# Altium schematic symbol library Schematic-Lib-ABahlmann-IC.SchLib: 124 symbols (part 2 of 4)
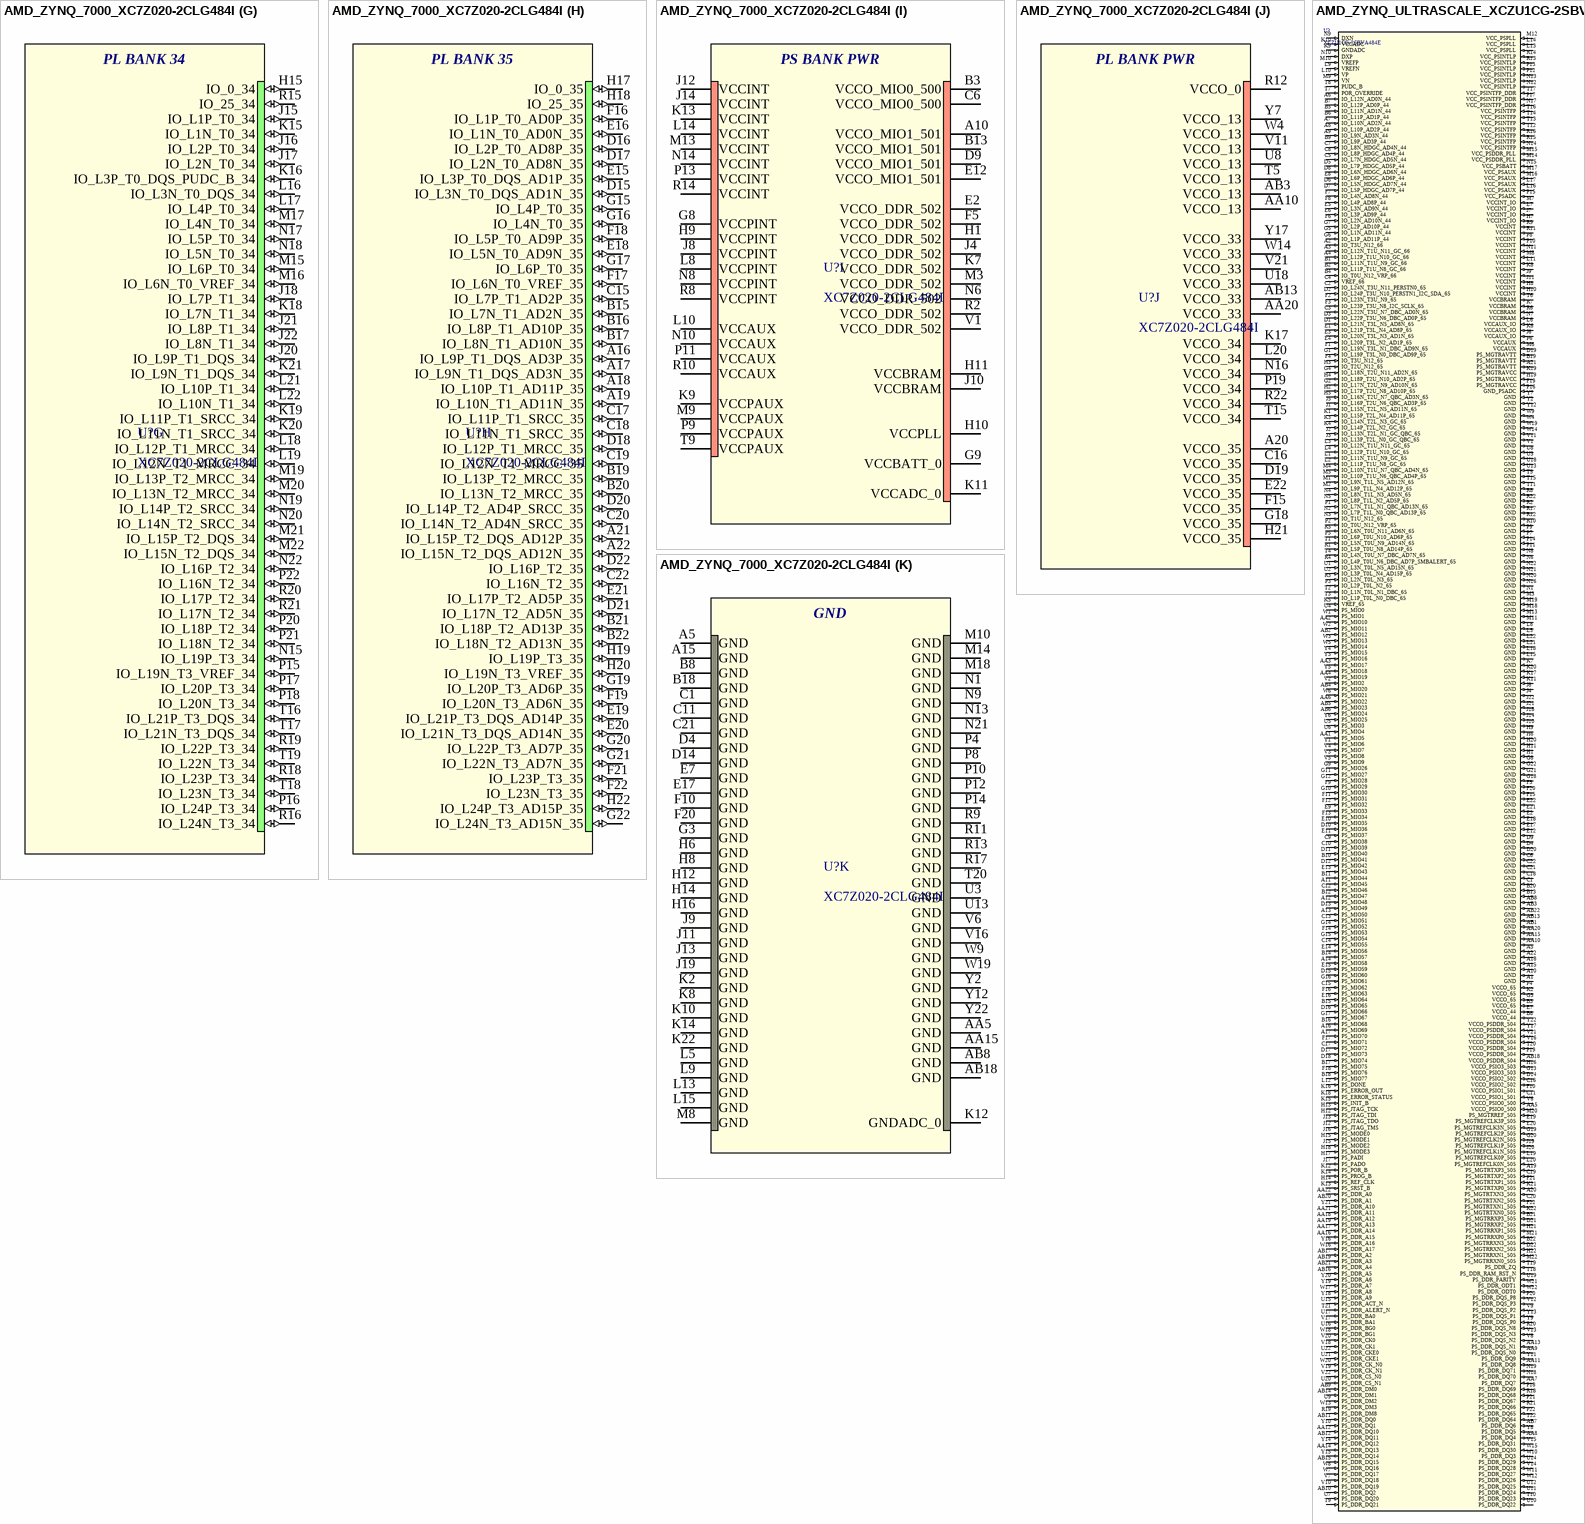
[diagram p22: symbols AMD_ZYNQ_7000_XC7Z020-2CLG484I to AMD_ZYNQ_ULTRASCALE_XCZU1CG-2SBVA484E]

## AMD_ZYNQ_7000_XC7Z020-2CLG484I
designator U?, comment XC7Z020-2CLG484I
Dual ARM® Cortex®-A9 MPCore™ with CoreSight™ System On Chip (SOC) IC Zynq®-7000 Artix™-7 FPGA, 85K Logic Cells 766MHz 484-CSPBGA (19x19); ComponentLink1Description: Digikey; ComponentLink1URL: https://www.digikey.ca/en/products/detail/amd/XC7Z020-2CLG484I/3925763; ComponentLink2Description: DS187; ComponentLink2URL: https://docs.amd.com/v/u/en-US/ds187-XC7Z010-XC7Z020-Data-Sheet; ComponentLink3Description: DS190; ComponentLink3URL: https://docs.amd.com/v/u/en-US/ds190-Zynq-7000-Overview
footprint AMD_ZYNQ_7000_XC7Z020-2CLG484I (Dual ARM® Cortex®-A9 MPCore™ with CoreSight™ System On Chip (SOC) IC Zynq®-7000 Artix™-7 FPGA, 85K Logic Cells 766MHz 484-CSPBGA (19x19))
part A pins: G10 RSVDGND (power), G11 TCK_0 (in), G12 TMS_0 (in), G14 TDO_0 (out), H13 TDI_0 (in), L11 VP_0 (in), L12 VREFN_0 (in), M11 VREFP_0 (in), M12 VN_0 (in), N11 DXP_0 (in), N12 DXN_0 (in), T7 RSVDVCC1 (power), T8 RSVDVCC2 (power), T10 RSVDVCC3 (power), T11 PROGRAM_B_0 (in), T12 DONE_0 (io), T13 CFGBVS_0 (in), T14 INIT_B_0 (io)
part B pins: A1 PS_MIO1_500 (io), A2 PS_MIO2_500 (io), A3 PS_MIO5_500 (io), A4 PS_MIO6_500 (io), A6 PS_MIO13_500 (io), B4 PS_MIO11_500 (io), B5 PS_POR_B_500 (in), B6 PS_MIO14_500 (io), C4 PS_MIO9_500 (io), C5 PS_MIO12_500 (io), D5 PS_MIO7_500 (io), E4 PS_MIO4_500 (io), E5 PS_MIO8_500 (io), E6 PS_MIO15_500 (io), F6 PS_MIO3_500 (io), F7 PS_CLK_500 (in), G6 PS_MIO0_500 (io), G7 PS_MIO10_500 (io)
part C pins: A7 PS_MIO18_501 (io), A8 PS_MIO20_501 (io), A9 PS_MIO36_501 (io), A11 PS_MIO30_501 (io), A12 PS_MIO28_501 (io), A13 PS_MIO26_501 (io), A14 PS_MIO22_501 (io), B7 PS_MIO24_501 (io), B9 PS_MIO45_501 (io), B10 PS_MIO47_501 (io), B11 PS_MIO43_501 (io), B12 PS_MIO34_501 (io), B14 PS_MIO37_501 (io), C7 PS_MIO32_501 (io), C8 PS_MIO41_501 (io), C9 PS_SRST_B_501 (in), C10 PS_MIO51_501 (io), C12 PS_MIO53_501 (io), C13 PS_MIO39_501 (io), C14 PS_MIO49_501 (io), D6 PS_MIO16_501 (io), D7 PS_MIO27_501 (io), D8 PS_MIO42_501 (io), D10 PS_MIO52_501 (io), D11 PS_MIO48_501 (io), D12 PS_MIO46_501 (io), D13 PS_MIO50_501 (io), E8 PS_MIO29_501 (io), E9 PS_MIO17_501 (io), E10 PS_MIO19_501 (io), E11 PS_MIO23_501 (io), E13 PS_MIO44_501 (io), E14 PS_MIO40_501 (io), F8 PS_MIO_VREF_501 (in), F9 PS_MIO31_501 (io), F11 PS_MIO21_501 (io), F12 PS_MIO25_501 (io), F13 PS_MIO38_501 (io), F14 PS_MIO35_501 (io), G13 PS_MIO33_501 (io)
part D pins: AA1 PS_DDR_DQ26_502 (io), AA2 PS_DDR_DM3_502 (out), AA3 PS_DDR_DQ24_502 (io), B1 PS_DDR_DM0_502 (out), B2 PS_DDR_DQ2_502 (io), C2 PS_DDR_DQS_P0_502 (io), C3 PS_DDR_DQ1_502 (io), D1 PS_DDR_DQ0_502 (io), D2 PS_DDR_DQS_N0_502 (io), D3 PS_DDR_DQ3_502 (io), E1 PS_DDR_DQ5_502 (io), E3 PS_DDR_DQ4_502 (io), F1 PS_DDR_DQ7_502 (io), F2 PS_DDR_DQ6_502 (io), F3 PS_DDR_DRST_B_502 (out), F4 PS_DDR_A13_502 (out), G1 PS_DDR_DQ9_502 (io), G2 PS_DDR_DQ8_502 (io), G4 PS_DDR_A14_502 (out), G5 PS_DDR_A11_502 (out), H2 PS_DDR_DQS_P1_502 (io), H3 PS_DDR_DM1_502 (out), H4 PS_DDR_A12_502 (out), H5 PS_DDR_A9_502 (out), H7 PS_DDR_VREF0_502 (in), J1 PS_DDR_DQ14_502 (io), J2 PS_DDR_DQS_N1_502 (io), J3 PS_DDR_A10_502 (out), J5 PS_DDR_A8_502 (out), J6 PS_DDR_A7_502 (out), J7 PS_DDR_A6_502 (out), K1 PS_DDR_DQ13_502 (io), K3 PS_DDR_DQ15_502 (io), K4 PS_DDR_A2_502 (out), K5 PS_DDR_A5_502 (out), K6 PS_DDR_A4_502 (out), L1 PS_DDR_DQ10_502 (io), L2 PS_DDR_DQ11_502 (io), L3 PS_DDR_DQ12_502 (io), L4 PS_DDR_A3_502 (out), L6 PS_DDR_BA1_502 (out), L7 PS_DDR_BA0_502 (out), M1 PS_DDR_DQ16_502 (io), M2 PS_DDR_DQ22_502 (io), M4 PS_DDR_A0_502 (out), M5 PS_DDR_A1_502 (out), M6 PS_DDR_BA2_502 (out), M7 PS_DDR_VRN_502 (out), N2 PS_DDR_DQS_P2_502 (io), N3 PS_DDR_DQ18_502 (io), N4 PS_DDR_CKP_502 (out), N5 PS_DDR_CKN_502 (out), N7 PS_DDR_VRP_502 (out), P1 PS_DDR_DM2_502 (out), P2 PS_DDR_DQS_N2_502 (io), P3 PS_DDR_CAS_B_502 (out), P5 PS_DDR_ODT_502 (out), P6 PS_DDR_CS_B_502 (out), P7 PS_DDR_VREF1_502 (in), R1 PS_DDR_DQ23_502 (io), R3 PS_DDR_DQ20_502 (io), R4 PS_DDR_WE_B_502 (out), R5 PS_DDR_RAS_B_502 (out), T1 PS_DDR_DQ19_502 (io), T2 PS_DDR_DQ21_502 (io), T3 PS_DDR_DQ17_502 (io), U1 PS_DDR_DQ25_502 (io), U2 PS_DDR_DQ27_502 (io), V2 PS_DDR_DQS_P3_502 (io), V3 PS_DDR_CKE_502 (out), W1 PS_DDR_DQ28_502 (io), W2 PS_DDR_DQS_N3_502 (io), W3 PS_DDR_DQ30_502 (io), Y1 PS_DDR_DQ31_502 (io), Y3 PS_DDR_DQ29_502 (io)
part E pins: AA4 IO_L18N_T2_13 (io), AA6 IO_L14N_T2_SRCC_13 (io), AA7 IO_L14P_T2_SRCC_13 (io), AA8 IO_L11N_T1_SRCC_13 (io), AA9 IO_L11P_T1_SRCC_13 (io), AA11 IO_L8P_T1_13 (io), AA12 IO_L7P_T1_13 (io), AB1 IO_L15N_T2_DQS_13 (io), AB2 IO_L15P_T2_DQS_13 (io), AB4 IO_L16N_T2_13 (io), AB5 IO_L16P_T2_13 (io), AB6 IO_L17N_T2_13 (io), AB7 IO_L17P_T2_13 (io), AB9 IO_L9N_T1_DQS_13 (io), AB10 IO_L9P_T1_DQS_13 (io), AB11 IO_L8N_T1_13 (io), AB12 IO_L7N_T1_13 (io), R6 IO_L19P_T3_13 (io), R7 IO_0_13 (io), T4 IO_L20P_T3_13 (io), T6 IO_L19N_T3_VREF_13 (io), U4 IO_L20N_T3_13 (io), U5 IO_L22N_T3_13 (io), U6 IO_L22P_T3_13 (io), U7 IO_25_13 (io), U9 IO_L6N_T0_VREF_13 (io), U10 IO_L6P_T0_13 (io), U11 IO_L5N_T0_13 (io), U12 IO_L5P_T0_13 (io), V4 IO_L21N_T3_DQS_13 (io), V5 IO_L21P_T3_DQS_13 (io), V7 IO_L23P_T3_13 (io), V8 IO_L2P_T0_13 (io), V9 IO_L1N_T0_13 (io), V10 IO_L1P_T0_13 (io), V12 IO_L4P_T0_13 (io), W5 IO_L24N_T3_13 (io), W6 IO_L24P_T3_13 (io), W7 IO_L23N_T3_13 (io), W8 IO_L2N_T0_13 (io), W10 IO_L3N_T0_DQS_13 (io), W11 IO_L3P_T0_DQS_13 (io), W12 IO_L4N_T0_13 (io), Y4 IO_L18P_T2_13 (io), Y5 IO_L13N_T2_MRCC_13 (io), Y6 IO_L13P_T2_MRCC_13 (io), Y8 IO_L12N_T1_MRCC_13 (io), Y9 IO_L12P_T1_MRCC_13 (io), Y10 IO_L10N_T1_13 (io), Y11 IO_L10P_T1_13 (io)
part F pins: AA13 IO_L23N_T3_33 (io), AA14 IO_L22N_T3_33 (io), AA16 IO_L18P_T2_33 (io), AA17 IO_L17P_T2_33 (io), AA18 IO_L12N_T1_MRCC_33 (io), AA19 IO_L11N_T1_SRCC_33 (io), AA21 IO_L8P_T1_33 (io), AA22 IO_L7P_T1_33 (io), AB14 IO_L24P_T3_33 (io), AB15 IO_L24N_T3_33 (io), AB16 IO_L18N_T2_33 (io), AB17 IO_L17N_T2_33 (io), AB19 IO_L10P_T1_33 (io), AB20 IO_L10N_T1_33 (io), AB21 IO_L8N_T1_33 (io), AB22 IO_L7N_T1_33 (io), T21 IO_L1P_T0_33 (io), T22 IO_L2P_T0_33 (io), U14 IO_25_33 (io), U15 IO_L15P_T2_DQS_33 (io), U16 IO_L15N_T2_DQS_33 (io), U17 IO_L16P_T2_33 (io), U19 IO_0_33 (io), U20 IO_L5P_T0_33 (io), U21 IO_L1N_T0_33 (io), U22 IO_L2N_T0_33 (io), V13 IO_L20P_T3_33 (io), V14 IO_L19P_T3_33 (io), V15 IO_L19N_T3_VREF_33 (io), V17 IO_L16N_T2_33 (io), V18 IO_L6P_T0_33 (io), V19 IO_L6N_T0_VREF_33 (io), V20 IO_L5N_T0_33 (io), V22 IO_L3P_T0_DQS_33 (io), W13 IO_L20N_T3_33 (io), W15 IO_L21P_T3_DQS_33 (io), W16 IO_L14P_T2_SRCC_33 (io), W17 IO_L13P_T2_MRCC_33 (io), W18 IO_L13N_T2_MRCC_33 (io), W20 IO_L4P_T0_33 (io), W21 IO_L4N_T0_33 (io), W22 IO_L3N_T0_DQS_33 (io), Y13 IO_L23P_T3_33 (io), Y14 IO_L22P_T3_33 (io), Y15 IO_L21N_T3_DQS_33 (io), Y16 IO_L14N_T2_SRCC_33 (io), Y18 IO_L12P_T1_MRCC_33 (io), Y19 IO_L11P_T1_SRCC_33 (io), Y20 IO_L9P_T1_DQS_33 (io), Y21 IO_L9N_T1_DQS_33 (io)
part G pins: H15 IO_0_34 (io), J15 IO_L1P_T0_34 (io), J16 IO_L2P_T0_34 (io), J17 IO_L2N_T0_34 (io), J18 IO_L7P_T1_34 (io), J20 IO_L9P_T1_DQS_34 (io), J21 IO_L8P_T1_34 (io), J22 IO_L8N_T1_34 (io), K15 IO_L1N_T0_34 (io), K16 IO_L3P_T0_DQS_PUDC_B_34 (io), K18 IO_L7N_T1_34 (io), K19 IO_L11P_T1_SRCC_34 (io), K20 IO_L11N_T1_SRCC_34 (io), K21 IO_L9N_T1_DQS_34 (io), L16 IO_L3N_T0_DQS_34 (io), L17 IO_L4P_T0_34 (io), L18 IO_L12P_T1_MRCC_34 (io), L19 IO_L12N_T1_MRCC_34 (io), L21 IO_L10P_T1_34 (io), L22 IO_L10N_T1_34 (io), M15 IO_L6P_T0_34 (io), M16 IO_L6N_T0_VREF_34 (io), M17 IO_L4N_T0_34 (io), M19 IO_L13P_T2_MRCC_34 (io), M20 IO_L13N_T2_MRCC_34 (io), M21 IO_L15P_T2_DQS_34 (io), M22 IO_L15N_T2_DQS_34 (io), N15 IO_L19P_T3_34 (io), N17 IO_L5P_T0_34 (io), N18 IO_L5N_T0_34 (io), N19 IO_L14P_T2_SRCC_34 (io), N20 IO_L14N_T2_SRCC_34 (io), N22 IO_L16P_T2_34 (io), P15 IO_L19N_T3_VREF_34 (io), P16 IO_L24P_T3_34 (io), P17 IO_L20P_T3_34 (io), P18 IO_L20N_T3_34 (io), P20 IO_L18P_T2_34 (io), P21 IO_L18N_T2_34 (io), P22 IO_L16N_T2_34 (io), R15 IO_25_34 (io), R16 IO_L24N_T3_34 (io), R18 IO_L23P_T3_34 (io), R19 IO_L22P_T3_34 (io), R20 IO_L17P_T2_34 (io), R21 IO_L17N_T2_34 (io), T16 IO_L21P_T3_DQS_34 (io), T17 IO_L21N_T3_DQS_34 (io), T18 IO_L23N_T3_34 (io), T19 IO_L22N_T3_34 (io)
part H pins: A16 IO_L9P_T1_DQS_AD3P_35 (io), A17 IO_L9N_T1_DQS_AD3N_35 (io), A18 IO_L10P_T1_AD11P_35 (io), A19 IO_L10N_T1_AD11N_35 (io), A21 IO_L15P_T2_DQS_AD12P_35 (io), A22 IO_L15N_T2_DQS_AD12N_35 (io), B15 IO_L7N_T1_AD2N_35 (io), B16 IO_L8P_T1_AD10P_35 (io), B17 IO_L8N_T1_AD10N_35 (io), B19 IO_L13P_T2_MRCC_35 (io), B20 IO_L13N_T2_MRCC_35 (io), B21 IO_L18P_T2_AD13P_35 (io), B22 IO_L18N_T2_AD13N_35 (io), C15 IO_L7P_T1_AD2P_35 (io), C17 IO_L11P_T1_SRCC_35 (io), C18 IO_L11N_T1_SRCC_35 (io), C19 IO_L12N_T1_MRCC_35 (io), C20 IO_L14N_T2_AD4N_SRCC_35 (io), C22 IO_L16N_T2_35 (io), D15 IO_L3N_T0_DQS_AD1N_35 (io), D16 IO_L2P_T0_AD8P_35 (io), D17 IO_L2N_T0_AD8N_35 (io), D18 IO_L12P_T1_MRCC_35 (io), D20 IO_L14P_T2_AD4P_SRCC_35 (io), D21 IO_L17N_T2_AD5N_35 (io), D22 IO_L16P_T2_35 (io), E15 IO_L3P_T0_DQS_AD1P_35 (io), E16 IO_L1N_T0_AD0N_35 (io), E18 IO_L5N_T0_AD9N_35 (io), E19 IO_L21P_T3_DQS_AD14P_35 (io), E20 IO_L21N_T3_DQS_AD14N_35 (io), E21 IO_L17P_T2_AD5P_35 (io), F16 IO_L1P_T0_AD0P_35 (io), F17 IO_L6N_T0_VREF_35 (io), F18 IO_L5P_T0_AD9P_35 (io), F19 IO_L20N_T3_AD6N_35 (io), F21 IO_L23P_T3_35 (io), F22 IO_L23N_T3_35 (io), G15 IO_L4P_T0_35 (io), G16 IO_L4N_T0_35 (io), G17 IO_L6P_T0_35 (io), G19 IO_L20P_T3_AD6P_35 (io), G20 IO_L22P_T3_AD7P_35 (io), G21 IO_L22N_T3_AD7N_35 (io), G22 IO_L24N_T3_AD15N_35 (io), H17 IO_0_35 (io), H18 IO_25_35 (io), H19 IO_L19P_T3_35 (io), H20 IO_L19N_T3_VREF_35 (io), H22 IO_L24P_T3_AD15P_35 (io)
part I pins: A10 VCCO_MIO1_501 (power), B3 VCCO_MIO0_500 (power), B13 VCCO_MIO1_501 (power), C6 VCCO_MIO0_500 (power), D9 VCCO_MIO1_501 (power), E2 VCCO_DDR_502 (power), E12 VCCO_MIO1_501 (power), F5 VCCO_DDR_502 (power), G8 VCCPINT (power), G9 VCCBATT_0 (power), H1 VCCO_DDR_502 (power), H9 VCCPINT (power), H10 VCCPLL (power), H11 VCCBRAM (power), J4 VCCO_DDR_502 (power), J8 VCCPINT (power), J10 VCCBRAM (power), J12 VCCINT (power), J14 VCCINT (power), K7 VCCO_DDR_502 (power), K9 VCCPAUX (power), K11 VCCADC_0 (power), K13 VCCINT (power), L8 VCCPINT (power), L10 VCCAUX (power), L14 VCCINT (power), M3 VCCO_DDR_502 (power), M9 VCCPAUX (power), M13 VCCINT (power), N6 VCCO_DDR_502 (power), N8 VCCPINT (power), N10 VCCAUX (power), N14 VCCINT (power), P9 VCCPAUX (power), P11 VCCAUX (power), P13 VCCINT (power), R2 VCCO_DDR_502 (power), R8 VCCPINT (power), R10 VCCAUX (power), R14 VCCINT (power), T9 VCCPAUX (power), V1 VCCO_DDR_502 (power)
part J pins: A20 VCCO_35 (power), AA10 VCCO_13 (power), AA20 VCCO_33 (power), AB3 VCCO_13 (power), AB13 VCCO_33 (power), C16 VCCO_35 (power), D19 VCCO_35 (power), E22 VCCO_35 (power), F15 VCCO_35 (power), G18 VCCO_35 (power), H21 VCCO_35 (power), K17 VCCO_34 (power), L20 VCCO_34 (power), N16 VCCO_34 (power), P19 VCCO_34 (power), R12 VCCO_0 (power), R22 VCCO_34 (power), T5 VCCO_13 (power), T15 VCCO_34 (power), U8 VCCO_13 (power), U18 VCCO_33 (power), V11 VCCO_13 (power), V21 VCCO_33 (power), W4 VCCO_13 (power), W14 VCCO_33 (power), Y7 VCCO_13 (power), Y17 VCCO_33 (power)
part K pins: A5 GND (power), A15 GND (power), AA5 GND (power), AA15 GND (power), AB8 GND (power), AB18 GND (power), B8 GND (power), B18 GND (power), C1 GND (power), C11 GND (power), C21 GND (power), D4 GND (power), D14 GND (power), E7 GND (power), E17 GND (power), F10 GND (power), F20 GND (power), G3 GND (power), H6 GND (power), H8 GND (power), H12 GND (power), H14 GND (power), H16 GND (power), J9 GND (power), J11 GND (power), J13 GND (power), J19 GND (power), K2 GND (power), K8 GND (power), K10 GND (power), K12 GNDADC_0 (power), K14 GND (power), K22 GND (power), L5 GND (power), L9 GND (power), L13 GND (power), L15 GND (power), M8 GND (power), M10 GND (power), M14 GND (power), M18 GND (power), N1 GND (power), N9 GND (power), N13 GND (power), N21 GND (power), P4 GND (power), P8 GND (power), P10 GND (power), P12 GND (power), P14 GND (power), R9 GND (power), R11 GND (power), R13 GND (power), R17 GND (power), T20 GND (power), U3 GND (power), U13 GND (power), V6 GND (power), V16 GND (power), W9 GND (power), W19 GND (power), Y2 GND (power), Y12 GND (power), Y22 GND (power)
part A text: BANK 0 (CFG)
part B text: PS BANK 500
part C text: PS BANK 501
part D text: PS BANK 502 (DDR)
part E text: PL BANK 13
part F text: PL BANK 33
part G text: PL BANK 34
part H text: PL BANK 35
part I text: PS BANK PWR
part J text: PL BANK PWR

## AMD_ZYNQ_ULTRASCALE_XCZU1CG-2SBVA484E
designator U?, comment XCZU1CG-2SBVA484E
Dual ARM® Cortex®-A53 MPCore™ with CoreSight™, Dual ARM®Cortex™-R5 with CoreSight™ System On Chip (SOC) IC Zynq® UltraScale+™ 533MHz, 1.333GHz 484-FCBGA (19x19); ComponentLink1Description: Digikey; ComponentLink1URL: https://www.digikey.com/en/products/detail/amd/XCZU1CG-2SBVA484E/15974600
footprint SFRA484
pins: A1 GND (in), A2 IO_T3U_N12_66 (in), A3 IO_L12N_T1U_N11_GC_66 (in), A4 IO_L12P_T1U_N10_GC_66 (in), A5 GND (in), A6 IO_L12N_AD0N_44 (in), A7 IO_L10N_AD2N_44 (in), A8 IO_L10P_AD2P_44 (in), A9 IO_L9N_AD3N_44 (in), A10 GND (in), A11 PS_MIO45 (in), A12 PS_MIO48 (in), A13 PS_MIO50 (in), A14 PS_MIO58 (in), A15 GND (in), A16 PS_MIO69 (in), A17 PS_MIO70 (in), A18 GND (in), A19 PS_MGTRTXP3_505 (in), A20 PS_MGTRTXN3_505 (in), A21 PS_MGTRAVTT (in), A22 GND (in), AA1 PS_MIO5 (in), AA2 PS_MIO10 (in), AA3 PS_MIO17 (in), AA4 PS_MIO19 (in), AA5 VCCO_PSIO0_500 (in), AA6 PS_MIO22 (in), AA7 PS_DDR_DQ7 (in), AA8 PS_DDR_DQ4 (in), AA9 PS_DDR_DQS_N0 (in), AA10 GND (in), AA11 PS_DDR_DQ8 (in), AA12 PS_DDR_DQ10 (in), AA13 PS_DDR_DQS_N1 (in), AA14 PS_DDR_DQ13 (in), AA15 GND (in), AA16 PS_DDR_A15 (in), AA17 PS_DDR_A14 (in), AA18 PS_DDR_A12 (in), AA19 PS_DDR_A13 (in), AA20 GND (in), AA21 PS_DDR_A11 (in), AA22 PS_DDR_A0 (in), AB1 GND (in), AB2 PS_MIO12 (in), AB3 GND (in), AB4 PS_MIO20 (in), AB5 PS_MIO23 (in), AB6 PS_MIO24 (in), AB7 PS_DDR_DQ6 (in), AB8 GND (in), AB9 PS_DDR_DM0 (in), AB10 PS_DDR_DQ2 (in), AB11 PS_DDR_DQ0 (in), AB12 PS_DDR_DQ11 (in), AB13 GND (in), AB14 PS_DDR_DM1 (in), AB15 PS_DDR_DQ15 (in), AB16 PS_DDR_A5 (in), AB17 PS_DDR_A2 (in), AB18 VCCO_PSDDR_504 (in), AB19 PS_DDR_A3 (in), AB20 PS_DDR_A1 (in), AB21 PS_DDR_A4 (in), AB22 GND (in), B1 IO_L11N_T1U_N9_GC_66 (in), B2 IO_L11P_T1U_N8_GC_66 (in), B3 VCCO_65 (in), B4 IO_T0U_N12_VRP_66 (in), B5 IO_L11N_AD1N_44 (in), B6 IO_L11P_AD1P_44 (in), B7 IO_L12P_AD0P_44 (in), B8 VCCO_44 (in), B9 IO_L9P_AD3P_44 (in), B10 PS_MIO41 (in), B11 PS_MIO44 (in), B12 PS_MIO47 (in), B13 GND (in), B14 PS_MIO57 (in), B15 PS_MIO65 (in), B16 PS_MIO68 (in), B17 PS_MIO75 (in), B18 PS_MIO77 (in), B19 PS_MGTRAVTT (in), B20 GND (in), B21 PS_MGTRRXP3_505 (in), B22 PS_MGTRRXN3_505 (in), C1 GND (in), C2 IO_L24N_T3U_N11_PERSTN0_65 (in), C3 IO_L22N_T3U_N7_DBC_AD0N_65 (in), C4 VREF_66 (in), C5 IO_L7N_HDGC_AD5N_44 (in), C6 GND (in), C7 IO_L8N_HDGC_AD4N_44 (in), C8 IO_L8P_HDGC_AD4P_44 (in), C9 PS_MIO38 (in), C10 PS_MIO39 (in), C11 VCCO_PSIO1_501 (in), C12 PS_MIO46 (in), C13 PS_MIO51 (in), C14 PS_MIO55 (in), C15 PS_MIO62 (in), C16 VCCO_PSIO2_502 (in), C17 PS_MIO72 (in), C18 GND (in), C19 PS_MGTRTXP2_505 (in), C20 PS_MGTRTXN2_505 (in), C21 GND (in), C22 GND (in), D1 IO_L21N_T3L_N5_AD8N_65 (in), D2 IO_L24P_T3U_N10_PERSTN1_I2C_SDA_65 (in), D3 IO_L22P_T3U_N6_DBC_AD0P_65 (in), D4 GND (in), D5 IO_L7P_HDGC_AD5P_44 (in), D6 IO_L5N_HDGC_AD7N_44 (in), D7 IO_L5P_HDGC_AD7P_44 (in), D8 IO_L6N_HDGC_AD6N_44 (in), D9 GND (in), D10 PS_MIO36 (in), D11 PS_MIO40 (in), D12 PS_MIO42 (in), D13 PS_MIO49 (in), D14 VCCO_PSIO2_502 (in), D15 PS_MIO60 (in), D16 PS_MIO66 (in), D17 PS_MIO73 (in), D18 PS_MIO74 (in), D19 PS_MGTRAVTT (in), D20 GND (in), D21 PS_MGTRRXP2_505 (in), D22 PS_MGTRRXN2_505 (in), E1 IO_L21P_T3L_N4_AD8P_65 (in), E2 GND (in), E3 IO_L20N_T3L_N3_AD1N_65 (in), E4 IO_L20P_T3L_N2_AD1P_65 (in), E5 IO_L3N_AD9N_44 (in), E6 IO_L3P_AD9P_44 (in), E7 VCCO_44 (in), E8 IO_L6P_HDGC_AD6P_44 (in), E9 PS_MIO33 (in), E10 PS_MIO35 (in), E11 PS_MIO37 (in), E12 GND (in), E13 PS_MIO43 (in), E14 PS_MIO56 (in), E15 PS_MIO59 (in), E16 PS_MIO64 (in), E17 GND (in), E18 GND (in), E19 PS_MGTREFCLK3P_505 (in), E20 PS_MGTREFCLK3N_505 (in), E21 GND (in), E22 GND (in), F1 IO_L19N_T3L_N1_DBC_AD9N_65 (in), F2 IO_L23N_T3U_N9_65 (in), F3 IO_L23P_T3U_N8_I2C_SCLK_65 (in), F4 IO_T3U_N12_65 (in), F5 GND (in), F6 IO_L2N_AD10N_44 (in), F7 IO_L4N_AD8N_44 (in), F8 IO_L4P_AD8P_44 (in), F9 PS_MIO29 (in), F10 VCCO_PSIO1_501 (in), F11 PS_MIO31 (in), F12 PS_MIO32 (in), F13 PS_MIO34 (in), F14 PS_MIO53 (in), F15 GND (in), F16 PS_MIO63 (in), F17 PS_MIO71 (in), F18 PS_MIO76 (in), F19 PS_MGTRAVCC (in), F20 GND (in), F21 PS_MGTRTXP1_505 (in), F22 PS_MGTRTXN1_505 (in), G1 IO_L19P_T3L_N0_DBC_AD9P_65 (in), G2 IO_L17N_T2U_N9_AD10N_65 (in), G3 VCCO_65 (in), G4 IO_L18N_T2U_N11_AD2N_65 (in), G5 IO_L1N_AD11N_44 (in), G6 IO_L1P_AD11P_44 (in), G7 IO_L2P_AD10P_44 (in), G8 GND (in), G9 PS_MIO26 (in), G10 PS_MIO30 (in), G11 PS_MIO27 (in), G12 PS_MIO28 (in), G13 VCCO_PSIO3_503 (in), G14 PS_MIO52 (in), G15 PS_MIO54 (in), G16 PS_MIO61 (in), G17 PS_MIO67 (in), G18 GND (in), G19 PS_MGTREFCLK2P_505 (in), G20 PS_MGTREFCLK2N_505 (in), G21 GND (in), G22 GND (in), H1 GND (in), H2 IO_L17P_T2U_N8_AD10P_65 (in), H3 IO_T2U_N12_65 (in), H4 IO_L18P_T2U_N10_AD2P_65 (in), H5 IO_L16N_T2U_N7_QBC_AD3N_65 (in), H6 GND (in), H7 VCCINT_IO (in), H8 VCCINT (in), H9 GND (in), H10 VCCINT (in), H11 GND (in), H12 PS_JTAG_TDI (in), H13 PS_JTAG_TCK (in), H14 PS_REF_CLK (in), H15 PS_MODE1 (in), H16 VCCO_PSIO3_503 (in), H17 PS_PADI (in), H18 PS_MODE3 (in), H19 PS_MGTRAVCC (in), H20 GND (in), H21 PS_MGTRRXP1_505 (in), H22 PS_MGTRRXN1_505 (in), J1 IO_L15N_T2L_N5_AD11N_65 (in), J2 IO_L13N_T2L_N1_GC_QBC_65 (in), J3 IO_L13P_T2L_N0_GC_QBC_65 (in), J4 GND (in), J5 IO_L16P_T2U_N6_QBC_AD3P_65 (in), J6 VCCAUX_IO (in), J7 VCCINT_IO (in), J8 GND (in), J9 VCCINT (in), J10 GND (in), J11 VCCINT (in), J12 PS_JTAG_TMS (in), J13 PS_JTAG_TDO (in), J14 GND (in), J15 PS_MODE2 (in), J16 PS_MODE0 (in), J17 PS_PADO (in), J18 GND (in), J19 PS_MGTREFCLK1P_505 (in), J20 PS_MGTREFCLK1N_505 (in), J21 GND (in), J22 GND (in), K1 IO_L15P_T2L_N4_AD11P_65 (in), K2 VCCO_65 (in), K3 IO_L14N_T2L_N3_GC_65 (in), K4 IO_L14P_T2L_N2_GC_65 (in), K5 VREF_65 (in), K6 VCCAUX_IO (in), K7 GND (in), K8 VCCINT (in), K9 GNDADC (in), K10 VCCADC (in), K11 GND (in), K12 PS_POR_B (in), K13 PS_SRST_B (in), K14 PS_PROG_B (in), K15 PS_INIT_B (in), K16 PS_ERROR_OUT (in), K17 GND (in), K18 PS_ERROR_STATUS (in), K19 PS_MGTRAVCC (in), K20 GND (in), K21 PS_MGTRTXP0_505 (in), K22 PS_MGTRTXN0_505 (in), L1 IO_L11N_T1U_N9_GC_65 (in), L2 IO_L11P_T1U_N8_GC_65 (in), L3 IO_L12N_T1U_N11_GC_65 (in), L4 IO_L12P_T1U_N10_GC_65 (in), L5 GND (in), L6 VCCAUX_IO (in), L7 VCCINT_IO (in), L8 GND (in), L9 VREFN (in), L10 VP (in), L11 VCCINT (in), L12 PS_DONE (in), L13 VCC_PSPLL (in), L14 VCC_PSPLL (in), L15 GND (in), L16 VCC_PSAUX (in), L17 VCC_PSAUX (in), L18 GND (in), L19 PS_MGTREFCLK0P_505 (in), L20 PS_MGTREFCLK0N_505 (in), L21 GND (in), L22 GND (in), M1 IO_L9N_T1L_N5_AD12N_65 (in), M2 IO_L9P_T1L_N4_AD12P_65 (in), M3 GND (in), M4 IO_L10N_T1U_N7_QBC_AD4N_65 (in), M5 IO_L10P_T1U_N6_QBC_AD4P_65 (in), M6 VCCAUX (in), M7 VCCINT_IO (in), M8 VCCINT (in), M9 VN (in), M10 VREFP (in), M11 GND (in), M12 VCC_PSPLL (in), M13 GND (in), M14 VCC_PSDDR_PLL (in), M15 VCC_PSDDR_PLL (in), M16 VCC_PSAUX (in), M17 VCC_PSAUX (in), M18 GND (in), M19 GND (in), M20 PS_MGTRREF_505 (in), M21 PS_MGTRRXP0_505 (in), M22 PS_MGTRRXN0_505 (in), N1 GND (in), N2 IO_L7P_T1L_N0_QBC_AD13P_65 (in), N3 IO_T1U_N12_65 (in), N4 IO_L8N_T1L_N3_AD5N_65 (in), N5 IO_L8P_T1L_N2_AD5P_65 (in), N6 GND (in), N7 VCCBRAM (in), N8 GND (in), N9 DXN (in), N10 DXP (in), N11 VCCINT (in), N12 VCC_PSINTLP (in), N13 VCC_PSINTLP (in), N14 VCC_PSINTFP (in), N15 VCC_PSBATT (in), N16 GND (in), N17 VCC_PSINTFP_DDR (in), N18 PS_DDR_DQ70 (in), N19 PS_DDR_DQ71 (in), N20 GND (in), N21 GND (in), N22 GND (in), P1 IO_L7N_T1L_N1_QBC_AD13N_65 (in), P2 IO_T0U_N12_VRP_65 (in), P3 IO_L2P_T0L_N2_65 (in), P4 VCCO_65 (in), P5 IO_L6P_T0U_N10_AD6P_65 (in), P6 VCCAUX (in), P7 GND (in), P8 VCCINT (in), P9 GND (in), P10 VCCINT (in), P11 GND (in), P12 VCC_PSINTLP (in), P13 VCC_PSINTLP (in), P14 GND (in), P15 VCC_PSADC (in), P16 GND_PSADC (in), P17 VCC_PSINTFP_DDR (in), P18 PS_DDR_DQ69 (in), P19 VCCO_PSDDR_504 (in), P20 PS_DDR_DQS_P8 (in), P21 PS_DDR_DQ67 (in), P22 PS_DDR_DQ65 (in), R1 IO_L5P_T0U_N8_AD14P_65 (in), R2 GND (in), R3 IO_L2N_T0L_N3_65 (in), R4 IO_L4P_T0U_N6_DBC_AD7P_SMBALERT_65 (in), R5 IO_L6N_T0U_N11_AD6N_65 (in), R6 VCCBRAM (in), R7 VCCBRAM (in), R8 GND (in), R9 VCCINT (in), R10 GND (in), R11 VCCINT (in), R12 GND (in), R13 VCC_PSINTLP (in), R14 VCC_PSINTLP (in), R15 VCC_PSINTFP (in), R16 VCC_PSINTFP (in), R17 GND (in), R18 PS_DDR_DQ68 (in), R19 PS_DDR_DM8 (in), R20 PS_DDR_DQS_N8 (in), R21 PS_DDR_DQ66 (in), R22 GND (in), T1 IO_L5N_T0U_N9_AD14N_65 (in), T2 IO_L1N_T0L_N1_DBC_65 (in), T3 IO_L1P_T0L_N0_DBC_65 (in), T4 IO_L4N_T0U_N7_DBC_AD7N_65 (in), T5 GND (in), T6 VCCBRAM (in), T7 POR_OVERRIDE (in), T8 PUDC_B (in), T9 PS_DDR_DQ21 (in), T10 PS_DDR_DQ23 (in), T11 GND (in), T12 VCC_PSINTFP (in), T13 VCC_PSINTFP (in), T14 VCC_PSINTFP (in), T15 GND (in), T16 VCC_PSINTFP (in), T17 VCC_PSINTFP_DDR (in), T18 PS_DDR_RAM_RST_N (in), T19 PS_DDR_ZQ (in), T20 VCCO_PSDDR_504 (in), T21 PS_DDR_ALERT_N (in), T22 PS_DDR_DQ64 (in), U1 IO_L3N_T0L_N5_AD15N_65 (in), U2 IO_L3P_T0L_N4_AD15P_65 (in), U3 GND (in), U4 PS_MIO0 (in), U5 PS_MIO3 (in), U6 PS_MIO4 (in), U7 PS_DDR_DQ20 (in), U8 GND (in), U9 PS_DDR_DM2 (in), U10 PS_DDR_DQ22 (in), U11 PS_DDR_DQ24 (in), U12 PS_DDR_DQ25 (in), U13 GND (in), U14 PS_DDR_DQ29 (in), U15 PS_DDR_ACT_N (in), U16 PS_DDR_BG0 (in), U17 PS_DDR_BA0 (in), U18 GND (in), U19 PS_DDR_PARITY (in), U20 PS_DDR_CS_N1 (in), U21 PS_DDR_CKE1 (in), U22 PS_DDR_CKE0 (in), V1 GND (in), V2 PS_MIO2 (in), V3 PS_MIO8 (in), V4 PS_MIO7 (in), V5 PS_MIO9 (in), V6 VCCO_PSIO0_500 (in), V7 PS_DDR_DQ18 (in), V8 PS_DDR_DQS_N2 (in), V9 PS_DDR_DQS_P2 (in), V10 PS_DDR_DQ19 (in), V11 GND (in), V12 PS_DDR_DQS_P3 (in), V13 PS_DDR_DQS_N3 (in), V14 PS_DDR_DQ28 (in), V15 PS_DDR_DQ31 (in), V16 VCCO_PSDDR_504 (in), V17 PS_DDR_BA1 (in), V18 PS_DDR_CK1 (in), V19 PS_DDR_CK_N1 (in), V20 PS_DDR_CK0 (in), V21 VCCO_PSDDR_504 (in), V22 PS_DDR_CS_N0 (in), W1 PS_MIO1 (in), W2 PS_MIO11 (in), W3 PS_MIO13 (in), W4 GND (in), W5 PS_MIO14 (in), W6 PS_MIO21 (in), W7 PS_DDR_DQ17 (in), W8 PS_DDR_DQ16 (in), W9 GND (in), W10 PS_DDR_DQ3 (in), W11 PS_DDR_DQ27 (in), W12 PS_DDR_DQ26 (in), W13 PS_DDR_DM3 (in), W14 GND (in), W15 PS_DDR_DQ30 (in), W16 PS_DDR_A17 (in), W17 PS_DDR_A8 (in), W18 PS_DDR_BG1 (in), W19 GND (in), W20 PS_DDR_CK_N0 (in), W21 PS_DDR_ODT1 (in), W22 PS_DDR_ODT0 (in), Y1 PS_MIO6 (in), Y2 GND (in), Y3 PS_MIO16 (in), Y4 PS_MIO15 (in), Y5 PS_MIO18 (in), Y6 PS_MIO25 (in), Y7 GND (in), Y8 PS_DDR_DQ5 (in), Y9 PS_DDR_DQS_P0 (in), Y10 PS_DDR_DQ1 (in), Y11 PS_DDR_DQ9 (in), Y12 GND (in), Y13 PS_DDR_DQS_P1 (in), Y14 PS_DDR_DQ12 (in), Y15 PS_DDR_DQ14 (in), Y16 PS_DDR_A16 (in), Y17 VCCO_PSDDR_504 (in), Y18 PS_DDR_A9 (in), Y19 PS_DDR_A7 (in), Y20 PS_DDR_A6 (in), Y21 PS_DDR_A10 (in), Y22 VCCO_PSDDR_504 (in)

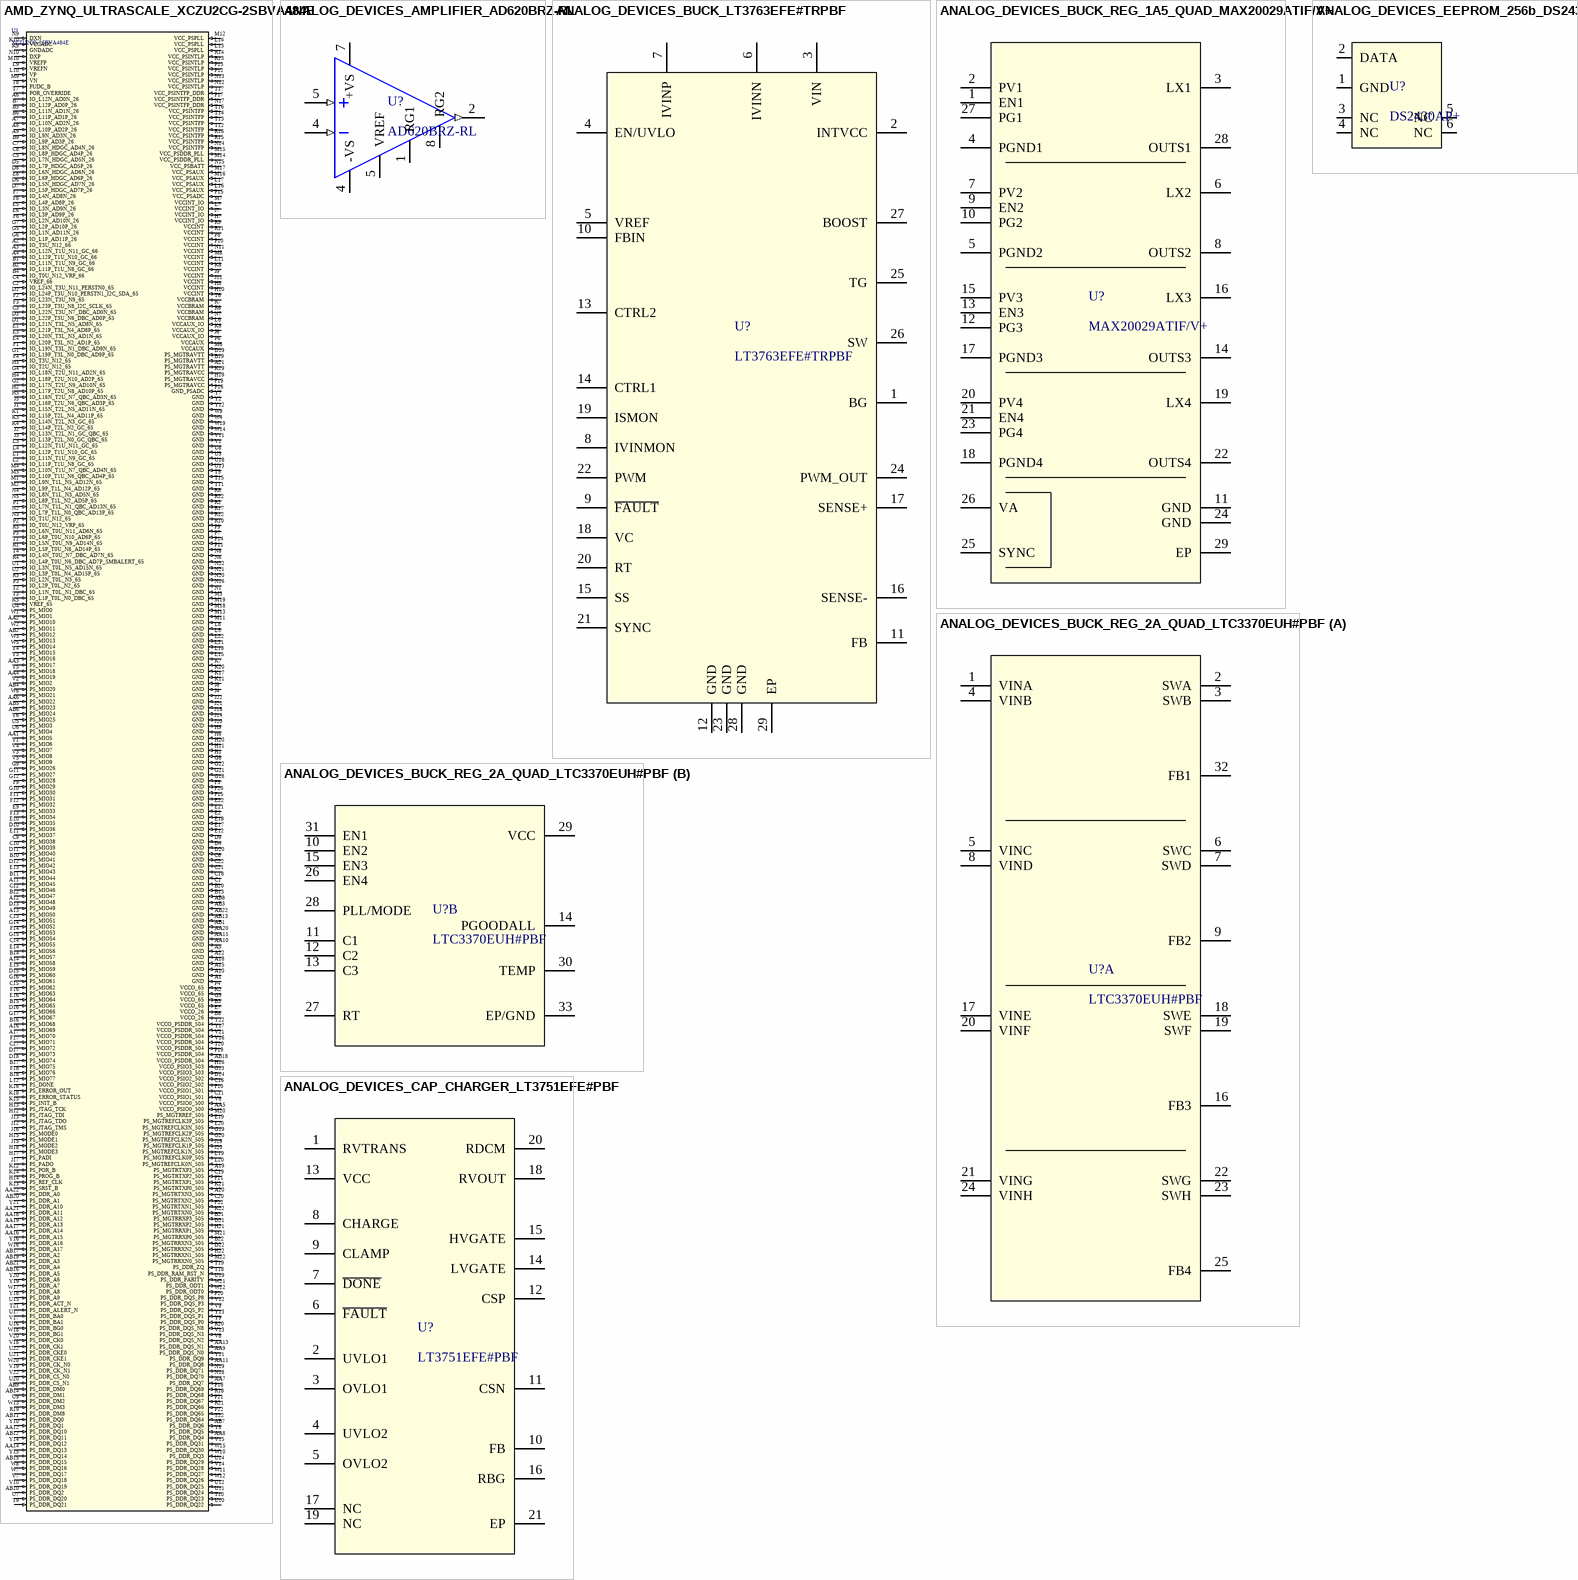
[diagram p9: symbols AMD_ZYNQ_ULTRASCALE_XCZU2CG-2SBVA484E to ANALOG_DEVICES_EEPROM_256b_DS2430AP+]

## AMD_ZYNQ_ULTRASCALE_XCZU2CG-2SBVA484E
designator U?, comment XCZU2CG-2SBVA484E
Dual ARM® Cortex®-A53 MPCore™ with CoreSight™, Dual ARM®Cortex™-R5 with CoreSight™ System On Chip (SOC) IC Zynq® UltraScale+™ MPSOC CG Zynq®UltraScale+™ FPGA, 103K+ Logic Cells 533MHz, 1.3GHz 484-FCBGA (19x19); ComponentLink1Description: Digikey; ComponentLink1URL: https://www.digikey.com/en/products/detail/amd/XCZU2CG-2SBVA484E/7034535?s=N4IgTCBcDaIBoGEBaBVMCDiBaMBlAQgGoCCALABykCiIAugL5A
footprint SFRA484
pins: A1 GND (in), A2 IO_T3U_N12_66 (in), A3 IO_L12N_T1U_N11_GC_66 (in), A4 IO_L12P_T1U_N10_GC_66 (in), A5 GND (in), A6 IO_L12N_AD0N_26 (in), A7 IO_L10N_AD2N_26 (in), A8 IO_L10P_AD2P_26 (in), A9 IO_L9N_AD3N_26 (in), A10 GND (in), A11 PS_MIO45 (in), A12 PS_MIO48 (in), A13 PS_MIO50 (in), A14 PS_MIO58 (in), A15 GND (in), A16 PS_MIO69 (in), A17 PS_MIO70 (in), A18 GND (in), A19 PS_MGTRTXP3_505 (in), A20 PS_MGTRTXN3_505 (in), A21 PS_MGTRAVTT (in), A22 GND (in), AA1 PS_MIO5 (in), AA2 PS_MIO10 (in), AA3 PS_MIO17 (in), AA4 PS_MIO19 (in), AA5 VCCO_PSIO0_500 (in), AA6 PS_MIO22 (in), AA7 PS_DDR_DQ7 (in), AA8 PS_DDR_DQ4 (in), AA9 PS_DDR_DQS_N0 (in), AA10 GND (in), AA11 PS_DDR_DQ8 (in), AA12 PS_DDR_DQ10 (in), AA13 PS_DDR_DQS_N1 (in), AA14 PS_DDR_DQ13 (in), AA15 GND (in), AA16 PS_DDR_A15 (in), AA17 PS_DDR_A14 (in), AA18 PS_DDR_A12 (in), AA19 PS_DDR_A13 (in), AA20 GND (in), AA21 PS_DDR_A11 (in), AA22 PS_DDR_A0 (in), AB1 GND (in), AB2 PS_MIO12 (in), AB3 GND (in), AB4 PS_MIO20 (in), AB5 PS_MIO23 (in), AB6 PS_MIO24 (in), AB7 PS_DDR_DQ6 (in), AB8 GND (in), AB9 PS_DDR_DM0 (in), AB10 PS_DDR_DQ2 (in), AB11 PS_DDR_DQ0 (in), AB12 PS_DDR_DQ11 (in), AB13 GND (in), AB14 PS_DDR_DM1 (in), AB15 PS_DDR_DQ15 (in), AB16 PS_DDR_A5 (in), AB17 PS_DDR_A2 (in), AB18 VCCO_PSDDR_504 (in), AB19 PS_DDR_A3 (in), AB20 PS_DDR_A1 (in), AB21 PS_DDR_A4 (in), AB22 GND (in), B1 IO_L11N_T1U_N9_GC_66 (in), B2 IO_L11P_T1U_N8_GC_66 (in), B3 VCCO_65 (in), B4 IO_T0U_N12_VRP_66 (in), B5 IO_L11N_AD1N_26 (in), B6 IO_L11P_AD1P_26 (in), B7 IO_L12P_AD0P_26 (in), B8 VCCO_26 (in), B9 IO_L9P_AD3P_26 (in), B10 PS_MIO41 (in), B11 PS_MIO44 (in), B12 PS_MIO47 (in), B13 GND (in), B14 PS_MIO57 (in), B15 PS_MIO65 (in), B16 PS_MIO68 (in), B17 PS_MIO75 (in), B18 PS_MIO77 (in), B19 PS_MGTRAVTT (in), B20 GND (in), B21 PS_MGTRRXP3_505 (in), B22 PS_MGTRRXN3_505 (in), C1 GND (in), C2 IO_L24N_T3U_N11_PERSTN0_65 (in), C3 IO_L22N_T3U_N7_DBC_AD0N_65 (in), C4 VREF_66 (in), C5 IO_L7N_HDGC_AD5N_26 (in), C6 GND (in), C7 IO_L8N_HDGC_AD4N_26 (in), C8 IO_L8P_HDGC_AD4P_26 (in), C9 PS_MIO38 (in), C10 PS_MIO39 (in), C11 VCCO_PSIO1_501 (in), C12 PS_MIO46 (in), C13 PS_MIO51 (in), C14 PS_MIO55 (in), C15 PS_MIO62 (in), C16 VCCO_PSIO2_502 (in), C17 PS_MIO72 (in), C18 GND (in), C19 PS_MGTRTXP2_505 (in), C20 PS_MGTRTXN2_505 (in), C21 GND (in), C22 GND (in), D1 IO_L21N_T3L_N5_AD8N_65 (in), D2 IO_L24P_T3U_N10_PERSTN1_I2C_SDA_65 (in), D3 IO_L22P_T3U_N6_DBC_AD0P_65 (in), D4 GND (in), D5 IO_L7P_HDGC_AD5P_26 (in), D6 IO_L5N_HDGC_AD7N_26 (in), D7 IO_L5P_HDGC_AD7P_26 (in), D8 IO_L6N_HDGC_AD6N_26 (in), D9 GND (in), D10 PS_MIO36 (in), D11 PS_MIO40 (in), D12 PS_MIO42 (in), D13 PS_MIO49 (in), D14 VCCO_PSIO2_502 (in), D15 PS_MIO60 (in), D16 PS_MIO66 (in), D17 PS_MIO73 (in), D18 PS_MIO74 (in), D19 PS_MGTRAVTT (in), D20 GND (in), D21 PS_MGTRRXP2_505 (in), D22 PS_MGTRRXN2_505 (in), E1 IO_L21P_T3L_N4_AD8P_65 (in), E2 GND (in), E3 IO_L20N_T3L_N3_AD1N_65 (in), E4 IO_L20P_T3L_N2_AD1P_65 (in), E5 IO_L3N_AD9N_26 (in), E6 IO_L3P_AD9P_26 (in), E7 VCCO_26 (in), E8 IO_L6P_HDGC_AD6P_26 (in), E9 PS_MIO33 (in), E10 PS_MIO35 (in), E11 PS_MIO37 (in), E12 GND (in), E13 PS_MIO43 (in), E14 PS_MIO56 (in), E15 PS_MIO59 (in), E16 PS_MIO64 (in), E17 GND (in), E18 GND (in), E19 PS_MGTREFCLK3P_505 (in), E20 PS_MGTREFCLK3N_505 (in), E21 GND (in), E22 GND (in), F1 IO_L19N_T3L_N1_DBC_AD9N_65 (in), F2 IO_L23N_T3U_N9_65 (in), F3 IO_L23P_T3U_N8_I2C_SCLK_65 (in), F4 IO_T3U_N12_65 (in), F5 GND (in), F6 IO_L2N_AD10N_26 (in), F7 IO_L4N_AD8N_26 (in), F8 IO_L4P_AD8P_26 (in), F9 PS_MIO29 (in), F10 VCCO_PSIO1_501 (in), F11 PS_MIO31 (in), F12 PS_MIO32 (in), F13 PS_MIO34 (in), F14 PS_MIO53 (in), F15 GND (in), F16 PS_MIO63 (in), F17 PS_MIO71 (in), F18 PS_MIO76 (in), F19 PS_MGTRAVCC (in), F20 GND (in), F21 PS_MGTRTXP1_505 (in), F22 PS_MGTRTXN1_505 (in), G1 IO_L19P_T3L_N0_DBC_AD9P_65 (in), G2 IO_L17N_T2U_N9_AD10N_65 (in), G3 VCCO_65 (in), G4 IO_L18N_T2U_N11_AD2N_65 (in), G5 IO_L1N_AD11N_26 (in), G6 IO_L1P_AD11P_26 (in), G7 IO_L2P_AD10P_26 (in), G8 GND (in), G9 PS_MIO26 (in), G10 PS_MIO30 (in), G11 PS_MIO27 (in), G12 PS_MIO28 (in), G13 VCCO_PSIO3_503 (in), G14 PS_MIO52 (in), G15 PS_MIO54 (in), G16 PS_MIO61 (in), G17 PS_MIO67 (in), G18 GND (in), G19 PS_MGTREFCLK2P_505 (in), G20 PS_MGTREFCLK2N_505 (in), G21 GND (in), G22 GND (in), H1 GND (in), H2 IO_L17P_T2U_N8_AD10P_65 (in), H3 IO_T2U_N12_65 (in), H4 IO_L18P_T2U_N10_AD2P_65 (in), H5 IO_L16N_T2U_N7_QBC_AD3N_65 (in), H6 GND (in), H7 VCCINT_IO (in), H8 VCCINT (in), H9 GND (in), H10 VCCINT (in), H11 GND (in), H12 PS_JTAG_TDI (in), H13 PS_JTAG_TCK (in), H14 PS_REF_CLK (in), H15 PS_MODE1 (in), H16 VCCO_PSIO3_503 (in), H17 PS_PADI (in), H18 PS_MODE3 (in), H19 PS_MGTRAVCC (in), H20 GND (in), H21 PS_MGTRRXP1_505 (in), H22 PS_MGTRRXN1_505 (in), J1 IO_L15N_T2L_N5_AD11N_65 (in), J2 IO_L13N_T2L_N1_GC_QBC_65 (in), J3 IO_L13P_T2L_N0_GC_QBC_65 (in), J4 GND (in), J5 IO_L16P_T2U_N6_QBC_AD3P_65 (in), J6 VCCAUX_IO (in), J7 VCCINT_IO (in), J8 GND (in), J9 VCCINT (in), J10 GND (in), J11 VCCINT (in), J12 PS_JTAG_TMS (in), J13 PS_JTAG_TDO (in), J14 GND (in), J15 PS_MODE2 (in), J16 PS_MODE0 (in), J17 PS_PADO (in), J18 GND (in), J19 PS_MGTREFCLK1P_505 (in), J20 PS_MGTREFCLK1N_505 (in), J21 GND (in), J22 GND (in), K1 IO_L15P_T2L_N4_AD11P_65 (in), K2 VCCO_65 (in), K3 IO_L14N_T2L_N3_GC_65 (in), K4 IO_L14P_T2L_N2_GC_65 (in), K5 VREF_65 (in), K6 VCCAUX_IO (in), K7 GND (in), K8 VCCINT (in), K9 GNDADC (in), K10 VCCADC (in), K11 GND (in), K12 PS_POR_B (in), K13 PS_SRST_B (in), K14 PS_PROG_B (in), K15 PS_INIT_B (in), K16 PS_ERROR_OUT (in), K17 GND (in), K18 PS_ERROR_STATUS (in), K19 PS_MGTRAVCC (in), K20 GND (in), K21 PS_MGTRTXP0_505 (in), K22 PS_MGTRTXN0_505 (in), L1 IO_L11N_T1U_N9_GC_65 (in), L2 IO_L11P_T1U_N8_GC_65 (in), L3 IO_L12N_T1U_N11_GC_65 (in), L4 IO_L12P_T1U_N10_GC_65 (in), L5 GND (in), L6 VCCAUX_IO (in), L7 VCCINT_IO (in), L8 GND (in), L9 VREFN (in), L10 VP (in), L11 VCCINT (in), L12 PS_DONE (in), L13 VCC_PSPLL (in), L14 VCC_PSPLL (in), L15 GND (in), L16 VCC_PSAUX (in), L17 VCC_PSAUX (in), L18 GND (in), L19 PS_MGTREFCLK0P_505 (in), L20 PS_MGTREFCLK0N_505 (in), L21 GND (in), L22 GND (in), M1 IO_L9N_T1L_N5_AD12N_65 (in), M2 IO_L9P_T1L_N4_AD12P_65 (in), M3 GND (in), M4 IO_L10N_T1U_N7_QBC_AD4N_65 (in), M5 IO_L10P_T1U_N6_QBC_AD4P_65 (in), M6 VCCAUX (in), M7 VCCINT_IO (in), M8 VCCINT (in), M9 VN (in), M10 VREFP (in), M11 GND (in), M12 VCC_PSPLL (in), M13 GND (in), M14 VCC_PSDDR_PLL (in), M15 VCC_PSDDR_PLL (in), M16 VCC_PSAUX (in), M17 VCC_PSAUX (in), M18 GND (in), M19 GND (in), M20 PS_MGTRREF_505 (in), M21 PS_MGTRRXP0_505 (in), M22 PS_MGTRRXN0_505 (in), N1 GND (in), N2 IO_L7P_T1L_N0_QBC_AD13P_65 (in), N3 IO_T1U_N12_65 (in), N4 IO_L8N_T1L_N3_AD5N_65 (in), N5 IO_L8P_T1L_N2_AD5P_65 (in), N6 GND (in), N7 VCCBRAM (in), N8 GND (in), N9 DXN (in), N10 DXP (in), N11 VCCINT (in), N12 VCC_PSINTLP (in), N13 VCC_PSINTLP (in), N14 VCC_PSINTFP (in), N15 VCC_PSBATT (in), N16 GND (in), N17 VCC_PSINTFP_DDR (in), N18 PS_DDR_DQ70 (in), N19 PS_DDR_DQ71 (in), N20 GND (in), N21 GND (in), N22 GND (in), P1 IO_L7N_T1L_N1_QBC_AD13N_65 (in), P2 IO_T0U_N12_VRP_65 (in), P3 IO_L2P_T0L_N2_65 (in), P4 VCCO_65 (in), P5 IO_L6P_T0U_N10_AD6P_65 (in), P6 VCCAUX (in), P7 GND (in), P8 VCCINT (in), P9 GND (in), P10 VCCINT (in), P11 GND (in), P12 VCC_PSINTLP (in), P13 VCC_PSINTLP (in), P14 GND (in), P15 VCC_PSADC (in), P16 GND_PSADC (in), P17 VCC_PSINTFP_DDR (in), P18 PS_DDR_DQ69 (in), P19 VCCO_PSDDR_504 (in), P20 PS_DDR_DQS_P8 (in), P21 PS_DDR_DQ67 (in), P22 PS_DDR_DQ65 (in), R1 IO_L5P_T0U_N8_AD14P_65 (in), R2 GND (in), R3 IO_L2N_T0L_N3_65 (in), R4 IO_L4P_T0U_N6_DBC_AD7P_SMBALERT_65 (in), R5 IO_L6N_T0U_N11_AD6N_65 (in), R6 VCCBRAM (in), R7 VCCBRAM (in), R8 GND (in), R9 VCCINT (in), R10 GND (in), R11 VCCINT (in), R12 GND (in), R13 VCC_PSINTLP (in), R14 VCC_PSINTLP (in), R15 VCC_PSINTFP (in), R16 VCC_PSINTFP (in), R17 GND (in), R18 PS_DDR_DQ68 (in), R19 PS_DDR_DM8 (in), R20 PS_DDR_DQS_N8 (in), R21 PS_DDR_DQ66 (in), R22 GND (in), T1 IO_L5N_T0U_N9_AD14N_65 (in), T2 IO_L1N_T0L_N1_DBC_65 (in), T3 IO_L1P_T0L_N0_DBC_65 (in), T4 IO_L4N_T0U_N7_DBC_AD7N_65 (in), T5 GND (in), T6 VCCBRAM (in), T7 POR_OVERRIDE (in), T8 PUDC_B (in), T9 PS_DDR_DQ21 (in), T10 PS_DDR_DQ23 (in), T11 GND (in), T12 VCC_PSINTFP (in), T13 VCC_PSINTFP (in), T14 VCC_PSINTFP (in), T15 GND (in), T16 VCC_PSINTFP (in), T17 VCC_PSINTFP_DDR (in), T18 PS_DDR_RAM_RST_N (in), T19 PS_DDR_ZQ (in), T20 VCCO_PSDDR_504 (in), T21 PS_DDR_ALERT_N (in), T22 PS_DDR_DQ64 (in), U1 IO_L3N_T0L_N5_AD15N_65 (in), U2 IO_L3P_T0L_N4_AD15P_65 (in), U3 GND (in), U4 PS_MIO0 (in), U5 PS_MIO3 (in), U6 PS_MIO4 (in), U7 PS_DDR_DQ20 (in), U8 GND (in), U9 PS_DDR_DM2 (in), U10 PS_DDR_DQ22 (in), U11 PS_DDR_DQ24 (in), U12 PS_DDR_DQ25 (in), U13 GND (in), U14 PS_DDR_DQ29 (in), U15 PS_DDR_ACT_N (in), U16 PS_DDR_BG0 (in), U17 PS_DDR_BA0 (in), U18 GND (in), U19 PS_DDR_PARITY (in), U20 PS_DDR_CS_N1 (in), U21 PS_DDR_CKE1 (in), U22 PS_DDR_CKE0 (in), V1 GND (in), V2 PS_MIO2 (in), V3 PS_MIO8 (in), V4 PS_MIO7 (in), V5 PS_MIO9 (in), V6 VCCO_PSIO0_500 (in), V7 PS_DDR_DQ18 (in), V8 PS_DDR_DQS_N2 (in), V9 PS_DDR_DQS_P2 (in), V10 PS_DDR_DQ19 (in), V11 GND (in), V12 PS_DDR_DQS_P3 (in), V13 PS_DDR_DQS_N3 (in), V14 PS_DDR_DQ28 (in), V15 PS_DDR_DQ31 (in), V16 VCCO_PSDDR_504 (in), V17 PS_DDR_BA1 (in), V18 PS_DDR_CK1 (in), V19 PS_DDR_CK_N1 (in), V20 PS_DDR_CK0 (in), V21 VCCO_PSDDR_504 (in), V22 PS_DDR_CS_N0 (in), W1 PS_MIO1 (in), W2 PS_MIO11 (in), W3 PS_MIO13 (in), W4 GND (in), W5 PS_MIO14 (in), W6 PS_MIO21 (in), W7 PS_DDR_DQ17 (in), W8 PS_DDR_DQ16 (in), W9 GND (in), W10 PS_DDR_DQ3 (in), W11 PS_DDR_DQ27 (in), W12 PS_DDR_DQ26 (in), W13 PS_DDR_DM3 (in), W14 GND (in), W15 PS_DDR_DQ30 (in), W16 PS_DDR_A17 (in), W17 PS_DDR_A8 (in), W18 PS_DDR_BG1 (in), W19 GND (in), W20 PS_DDR_CK_N0 (in), W21 PS_DDR_ODT1 (in), W22 PS_DDR_ODT0 (in), Y1 PS_MIO6 (in), Y2 GND (in), Y3 PS_MIO16 (in), Y4 PS_MIO15 (in), Y5 PS_MIO18 (in), Y6 PS_MIO25 (in), Y7 GND (in), Y8 PS_DDR_DQ5 (in), Y9 PS_DDR_DQS_P0 (in), Y10 PS_DDR_DQ1 (in), Y11 PS_DDR_DQ9 (in), Y12 GND (in), Y13 PS_DDR_DQS_P1 (in), Y14 PS_DDR_DQ12 (in), Y15 PS_DDR_DQ14 (in), Y16 PS_DDR_A16 (in), Y17 VCCO_PSDDR_504 (in), Y18 PS_DDR_A9 (in), Y19 PS_DDR_A7 (in), Y20 PS_DDR_A6 (in), Y21 PS_DDR_A10 (in), Y22 VCCO_PSDDR_504 (in)

## ANALOG_DEVICES_AMPLIFIER_AD620BRZ-RL
designator U?, comment AD620BRZ-RL
Instrumentation Amplifier 1 Circuit 8-SOIC; ComponentLink1Description: Digikey; ComponentLink1URL: https://www.digikey.ca/en/products/detail/analog-devices-inc/AD620BRZ-RL/653945; ComponentLink2Description: Datasheet; ComponentLink2URL: https://www.analog.com/media/en/technical-documentation/data-sheets/AD620.pdf
footprint ANALOG_DEVICES_AMPLIFIER_AD620BRZ-RL (Instrumentation Amplifier 1 Circuit 8-SOIC)
pins: 1 RG1 (power), 2 2OUT (out), 4 2IN– (in), 4 -VS (power), 5 2IN+ (in), 5 VREF (power), 7 +VS (power), 8 RG2 (power)

## ANALOG_DEVICES_BUCK_LT3763EFE#TRPBF
designator U?, comment LT3763EFE#TRPBF
LED Driver IC 1 Output DC DC Controller Step-Down (Buck) PWM Dimming 28-TSSOP-EP; ComponentLink1Description: Digikey; ComponentLink1URL: https://www.digikey.ca/en/products/detail/analog-devices-inc/LT3763EFE-TRPBF/3663594; ComponentLink2Description: Datasheet; ComponentLink2URL: https://www.analog.com/media/en/technical-documentation/data-sheets/LT3763.pdf
footprint ANALOG_DEVICES_BUCK_LT3763EFE#TRPBF (LED Driver IC 1 Output DC DC Controller Step-Down (Buck) PWM Dimming 28-TSSOP-EP)
pins: 1 BG, 2 INTVCC, 3 VIN, 4 EN/UVLO, 5 VREF, 6 IVINN, 7 IVINP, 8 IVINMON, 9 ~{FAULT}, 10 FBIN, 11 FB, 12 GND, 13 CTRL2, 14 CTRL1, 15 SS, 16 SENSE-, 17 SENSE+, 18 VC, 19 ISMON, 20 RT, 21 SYNC, 22 PWM, 23 GND, 24 PWM_OUT, 25 TG, 26 SW, 27 BOOST, 28 GND, 29 EP

## ANALOG_DEVICES_BUCK_REG_1A5_QUAD_MAX20029ATIF/V+
designator U?, comment MAX20029ATIF/V+
Buck Switching Regulator IC Positive Adjustable 1V 4 Output 1.5A 28-WFQFN Exposed Pad; ComponentLink1Description: Digikey; ComponentLink1URL: https://www.digikey.lt/en/products/detail/analog-devices-inc-maxim-integrated/MAX20029ATIF-V/11484404; ComponentLink2Description: Datasheet; ComponentLink2URL: https://www.analog.com/media/en/technical-documentation/data-sheets/MAX20029-MAX20029D.pdf; ComponentLink3Description: LCSC; ComponentLink3URL: https://jlcpcb.com/partdetail/3750889-MAX20029ATIF_V/C3188947
footprint ANALOG_DEVICES_BUCK_REG_1A5_QUAD_MAX20029ATIF/V+ (Buck Switching Regulator IC Positive Adjustable 1V 4 Output 1.5A 28-WFQFN Exposed Pad)
pins: 1 EN1, 2 PV1, 3 LX1, 4 PGND1, 5 PGND2, 6 LX2, 7 PV2, 8 OUTS2, 9 EN2, 10 PG2, 11 GND, 12 PG3, 13 EN3, 14 OUTS3, 15 PV3, 16 LX3, 17 PGND3, 18 PGND4, 19 LX4, 20 PV4, 21 EN4, 22 OUTS4, 23 PG4, 24 GND, 25 SYNC, 26 VA, 27 PG1, 28 OUTS1, 29 EP

## ANALOG_DEVICES_BUCK_REG_2A_QUAD_LTC3370EUH#PBF
designator U?, comment LTC3370EUH#PBF
Buck Switching Regulator IC Positive Adjustable 0.8V 4 Output 2A 32-WFQFN Exposed Pad; ComponentLink1Description: Digikey; ComponentLink1URL: https://www.digikey.ca/en/products/detail/analog-devices-inc/LTC3370EUH-PBF/5155629; ComponentLink2Description: Datasheet; ComponentLink2URL: https://www.analog.com/media/en/technical-documentation/data-sheets/3370fb.pdf; ComponentLink3Description: LCSC; ComponentLink3URL: https://jlcpcb.com/partdetail/AnalogDevices-LTC3370EUHPBF/C580713
footprint ANALOG_DEVICES_BUCK_REG_2A_QUAD_LTC3370EUH#PBF (Buck Switching Regulator IC Positive Adjustable 0.8V 4 Output 2A 32-WFQFN Exposed Pad)
part A pins: 1 VINA (power), 2 SWA (power), 3 SWB (power), 4 VINB (power), 5 VINC (power), 6 SWC (power), 7 SWD (power), 8 VIND (power), 9 FB2 (power), 16 FB3 (power), 17 VINE (power), 18 SWE (power), 19 SWF (power), 20 VINF (power), 21 VING (power), 22 SWG (power), 23 SWH (power), 24 VINH (power), 25 FB4 (power), 32 FB1 (power)
part B pins: 10 EN2 (power), 11 C1 (power), 12 C2 (power), 13 C3 (power), 14 PGOODALL (power), 15 EN3 (power), 26 EN4 (power), 27 RT (power), 28 PLL/MODE (power), 29 VCC (power), 30 TEMP (power), 31 EN1 (power), 33 EP/GND (power)

## ANALOG_DEVICES_CAP_CHARGER_LT3751EFE#PBF
designator U?, comment LT3751EFE#PBF
Photoflash Capacitor Charger PMIC 20-TSSOP-EP; ComponentLink1Description: Digikey; ComponentLink1URL: https://www.digikey.com/en/products/detail/analog-devices-inc/LT3751EFE-PBF/2041452; ComponentLink2Description: Datasheet; ComponentLink2URL: https://www.analog.com/media/en/technical-documentation/data-sheets/lt3751.pdf
pins: 1 RVTRANS, 2 UVLO1, 3 OVLO1, 4 UVLO2, 5 OVLO2, 6 ~{FAULT}, 7 ~{DONE}, 8 CHARGE, 9 CLAMP, 10 FB, 11 CSN, 12 CSP, 13 VCC, 14 LVGATE, 15 HVGATE, 16 RBG, 17 NC, 18 RVOUT, 19 NC, 20 RDCM, 21 EP

## ANALOG_DEVICES_EEPROM_256b_DS2430AP+
designator U?, comment DS2430AP+
EEPROM Memory IC 256bit 1-Wire® 15 µs 6-TSOC; ComponentLink1Description: Digikey; ComponentLink1URL: https://www.digikey.com/en/products/detail/analog-devices-inc-maxim-integrated/DS2430AP/956995; ComponentLink2Description: Datasheet; ComponentLink2URL: https://www.analog.com/media/en/technical-documentation/data-sheets/ds2430a.pdf
pins: 1 GND (power), 2 DATA, 3 NC, 4 NC, 5 NC, 6 NC

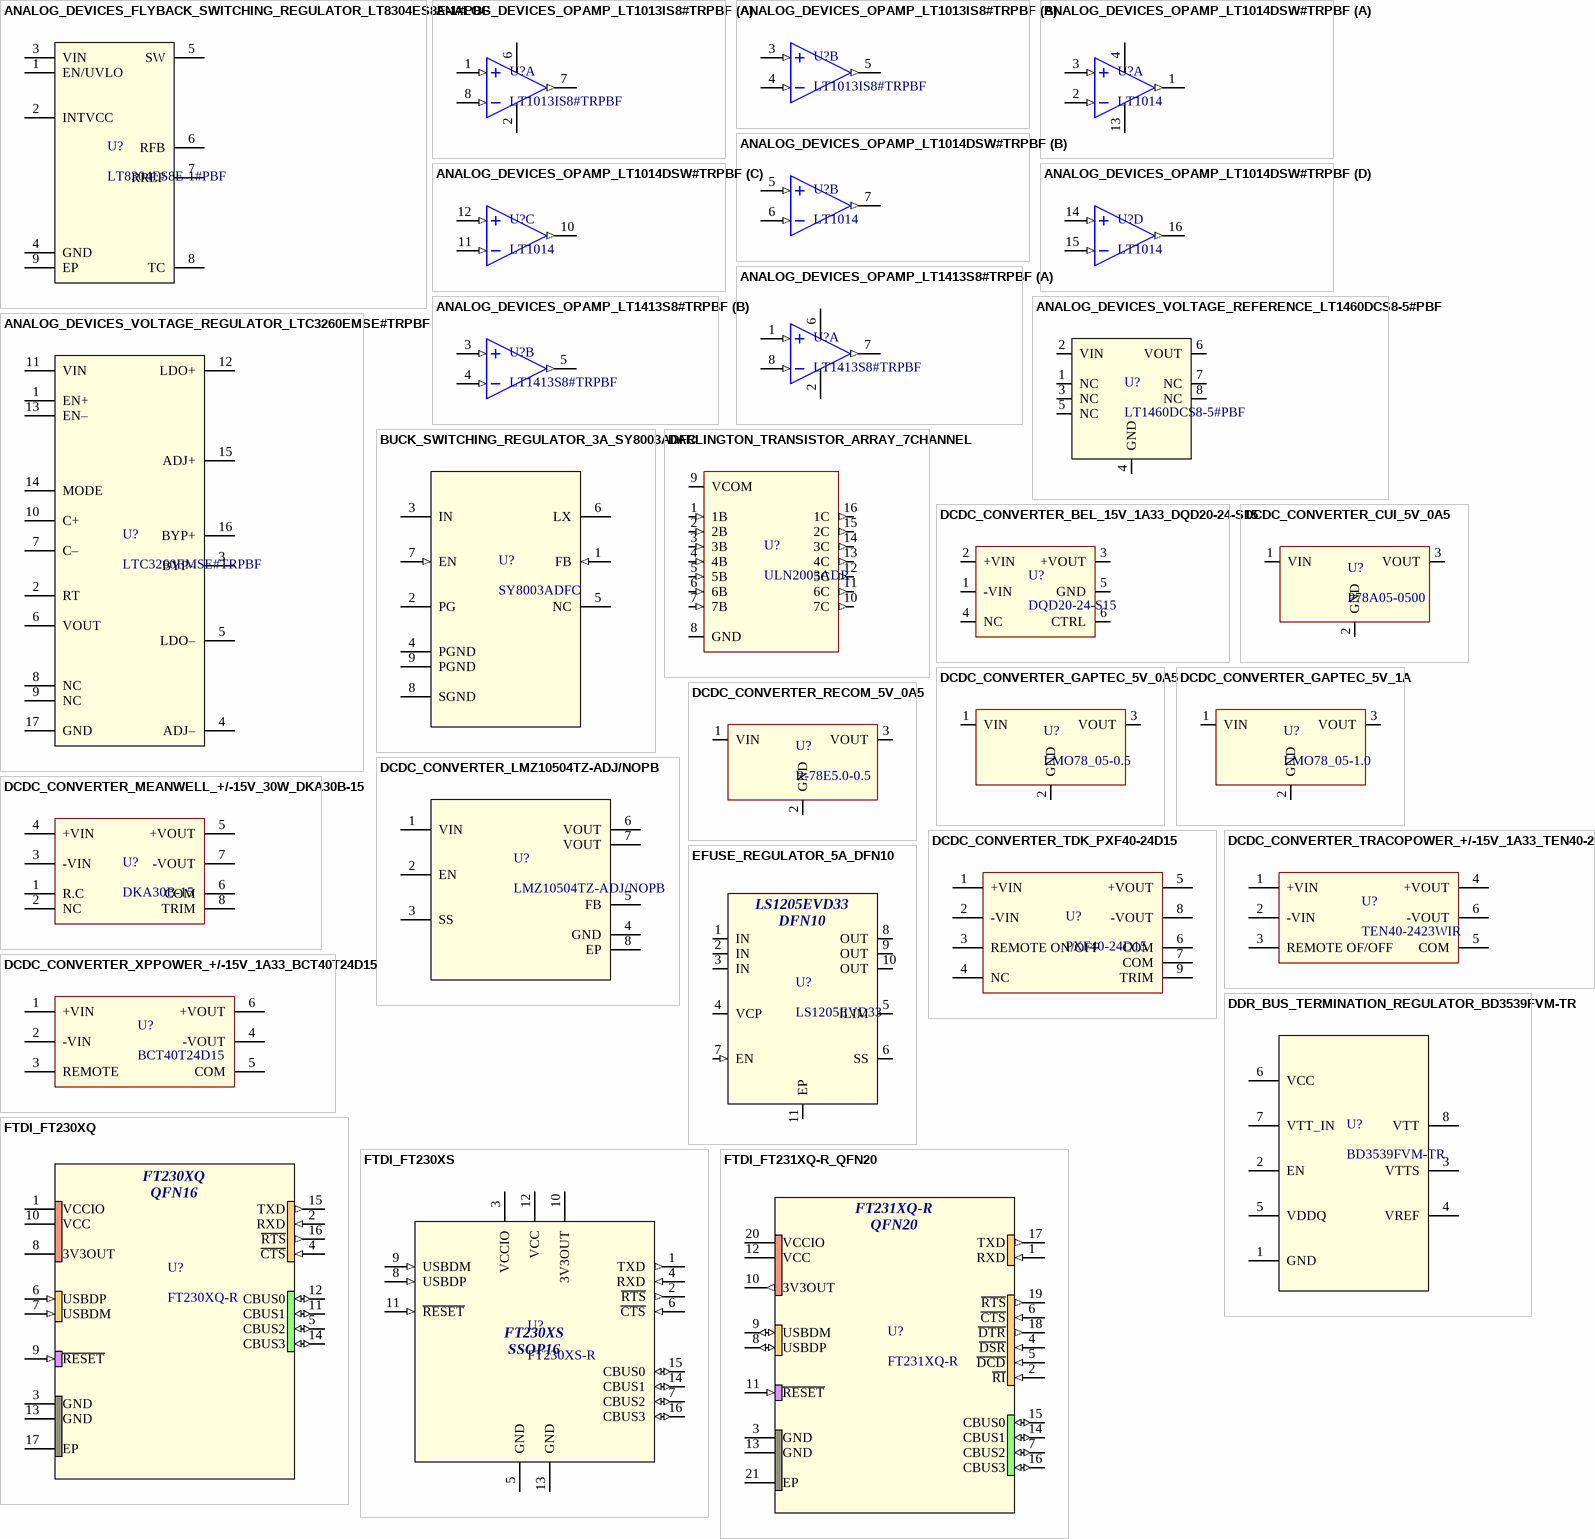
[diagram p10: symbols ANALOG_DEVICES_FLYBACK_SWITCHING_REGULATOR_LT8304ES8E-1#PBF to FTDI_FT231XQ-R_QFN20]

## ANALOG_DEVICES_FLYBACK_SWITCHING_REGULATOR_LT8304ES8E-1#PBF
designator U?, comment LT8304ES8E-1#PBF
Flyback Switching Regulator IC Positive or Negative, Isolation Capable Adjustable 1V 1 Output 2A (Switch) 8-SOIC (0.154", 3.90mm Width) Exposed Pad; ComponentLink1Description: Digikey; ComponentLink1URL: https://www.digikey.ca/en/products/detail/analog-devices-inc/LT8304ES8E-1-PBF/6820023; ComponentLink2Description: Datasheet; ComponentLink2URL: https://www.analog.com/media/en/technical-documentation/data-sheets/8304fa.pdf
footprint ANALOG_DEVICES_FLYBACK_SWITCHING_REGULATOR_LT8304ES8E-1#PBF (Flyback Switching Regulator IC Positive or Negative, Isolation Capable Adjustable 1V 1 Output 2A (Switch) 8-SOIC (0.154", 3.90mm Width) Exposed Pad)
pins: 1 EN/UVLO (power), 2 INTVCC (power), 3 VIN (power), 4 GND (power), 5 SW (power), 6 RFB (power), 7 RREF (power), 8 TC (power), 9 EP (power)

## ANALOG_DEVICES_OPAMP_LT1013IS8#TRPBF
designator U?, comment LT1013IS8#TRPBF
Standard (General Purpose) Amplifier 2 Circuit 8-SO; ComponentLink1Description: Digikey; ComponentLink1URL: https://www.digikey.com/en/products/detail/analog-devices-inc/LT1013IS8-TRPBF/958199; ComponentLink2Description: Datahseet; ComponentLink2URL: https://www.analog.com/media/en/technical-documentation/data-sheets/LT1013-LT1014.pdf
footprint ANALOG_DEVICES_OPAMP_LT1013IS8#TRPBF (Standard (General Purpose) Amplifier 2 Circuit 8-SO)
part A pins: 1 +INA (in), 2 V- (power), 6 V+ (power), 7 OUTA (out), 8 -INA (in)
part B pins: 3 +INB (in), 4 -INB (in), 5 OUTB (out)

## ANALOG_DEVICES_OPAMP_LT1014DSW#TRPBF
designator U?, comment LT1014
Standard (General Purpose) Amplifier 4 Circuit 16-SO; ComponentLink1Description: Digikey; ComponentLink1URL: https://www.digikey.com/en/products/detail/analog-devices-inc/LT1014DSW-TRPBF/962051; ComponentLink2Description: Datahseet; ComponentLink2URL: https://www.analog.com/media/en/technical-documentation/data-sheets/LT1013-LT1014.pdf
part A pins: 1 OUTA (out), 2 -INA (in), 3 +INA (in), 4 V+ (power), 13 V- (power)
part B pins: 5 +INB (in), 6 -INB (in), 7 OUTB (out)
part C pins: 10 OUTC (out), 11 -INC (in), 12 +INC (in)
part D pins: 14 +IND (in), 15 -IND (in), 16 OUTD (out)

## ANALOG_DEVICES_OPAMP_LT1413S8#TRPBF
designator U?, comment LT1413S8#TRPBF
Standard (General Purpose) Amplifier 2 Circuit 8-SO; ComponentLink1Description: Digikey; ComponentLink1URL: https://www.digikey.ca/en/products/detail/analog-devices-inc/LT1413S8-TRPBF/960396; ComponentLink2Description: Datahseet; ComponentLink2URL: https://www.analog.com/media/en/technical-documentation/data-sheets/lt1413.pdf
part A pins: 1 +INA (in), 2 V- (power), 6 V+ (power), 7 OUTA (out), 8 -INA (in)
part B pins: 3 +INB (in), 4 -INB (in), 5 OUTB (out)

## ANALOG_DEVICES_VOLTAGE_REFERENCE_LT1460DCS8-5#PBF
designator U?, comment LT1460DCS8-5#PBF
Series Voltage Reference IC Fixed 5V V ±0.1% 40 mA 8-SO; ComponentLink1Description: Digikey; ComponentLink1URL: https://www.digikey.ca/en/products/detail/analog-devices-inc/LT1460DCS8-5-PBF/891439; ComponentLink2Description: Datasheet; ComponentLink2URL: https://www.analog.com/media/en/technical-documentation/data-sheets/1460fc.pdf
pins: 1 NC, 2 VIN (power), 3 NC, 4 GND (power), 5 NC, 6 VOUT (power), 7 NC, 8 NC

## ANALOG_DEVICES_VOLTAGE_REGULATOR_LTC3260EMSE#TRPBF
designator U?, comment LTC3260EMSE#TRPBF
PMIC - Voltage Regulators - Linear Switching 1 Output Charge Pump 50kHz ~ 500kHz 16-MSOP-EP; ComponentLink1Description: Digikey; ComponentLink1URL: https://www.digikey.ca/en/products/detail/analog-devices-inc/LTC3260EMSE-TRPBF/3248407; ComponentLink2Description: Datasheet; ComponentLink2URL: https://www.analog.com/media/en/technical-documentation/data-sheets/ltc3260.pdf
footprint ANALOG_DEVICES_VOLTAGE_REGULATOR_LTC3260EMSE#TRPBF (PMIC - Voltage Regulators - Linear Switching 1 Output Charge Pump 50kHz ~ 500kHz 16-MSOP-EP)
pins: 1 EN+ (power), 2 RT (power), 3 BYP– (power), 4 ADJ– (power), 5 LDO– (power), 6 VOUT (power), 7 C– (power), 8 NC, 9 NC, 10 C+ (power), 11 VIN (power), 12 LDO+ (power), 13 EN– (power), 14 MODE (power), 15 ADJ+ (power), 16 BYP+ (power), 17 GND (power)

## BUCK_SWITCHING_REGULATOR_3A_SY8003ADFC
designator U?, comment SY8003ADFC
1MHz Buck Adjustable 3A DFN-8(2x2) Voltage Regulators - DC DC Switching Regulators RoHS; ComponentLink1Description: LCSC; ComponentLink1URL: https://www.lcsc.com/product-detail/C178236.html; ComponentLink2Description: Datasheet; ComponentLink2URL: https://www.lcsc.com/datasheet/C178236.pdf
pins: 1 FB (in), 2 PG (power), 3 IN (power), 4 PGND (power), 5 NC, 6 LX (power), 7 EN (in), 8 SGND (power), 9 PGND (power)

## DARLINGTON_TRANSISTOR_ARRAY_7CHANNEL
designator U?, comment ULN2003ADR
Bipolar (BJT) Transistor Array Surface Mount 16-SOIC; ComponentLink1Description: Digikey; ComponentLink1URL: https://www.digikey.ca/en/products/detail/texas-instruments/ULN2003ADR/277011; ComponentLink2Description: Datasheet; ComponentLink2URL: https://www.ti.com/lit/ds/symlink/uln2003a.pdf?HQS=dis-dk-null-digikeymode-dsf-pf-null-wwe&ts=1760824465658&ref_url=https%253A%252F%252Fwww.ti.com%252Fgeneral%252Fdocs%252Fsuppproductinfo.tsp%253FdistId%253D10%2526gotoUrl%253Dhttps%253A%252F%252Fwww.ti.com%252Flit%252Fgpn%252Fuln2003a; ComponentLink3Description: LCSC; ComponentLink3URL: https://www.lcsc.com/product-detail/C7512.html?s_z=n_ULN2003ADR
footprint SOIC-16
pins: 1 1B (in), 2 2B (in), 3 3B (in), 4 4B (in), 5 5B (in), 6 6B (in), 7 7B (in), 8 GND, 9 VCOM, 10 7C (out), 11 6C (out), 12 5C (out), 13 4C (out), 14 3C (out), 15 2C (out), 16 1C (out)

## DCDC_CONVERTER_BEL_15V_1A33_DQD20-24-S15
designator U?, comment DQD20-24-S15
Isolated Module DC DC Converter 1 Output 15V 1.333A 9V - 36V Input; ComponentLink1Description: Digikey; ComponentLink1URL: https://www.digikey.ca/en/products/detail/bel-power-solutions/DQD20-24-S15/26797957; ComponentLink2Description: Datasheet; ComponentLink2URL: https://www.belfuse.com/media/datasheets/products/power-supplies/DQD20.pdf
footprint DQD20-24-S15 (Isolated Module DC DC Converter 1 Output 15V 1.333A 9V - 36V Input)
pins: 1 -VIN (power), 2 +VIN (power), 3 +VOUT (power), 4 NC, 5 GND (power), 6 CTRL (power)

## DCDC_CONVERTER_CUI_5V_0A5
designator U?, comment P78A05-0500
Linear Regulator Replacement DC DC Converter 1 Output 5V 500mA 7V - 28V Input; ComponentLink1Description: Digikey; ComponentLink1URL: https://www.digikey.ca/en/products/detail/cui-inc/P78A05-0500/6098488; ComponentLink2Description: Datasheet; ComponentLink2URL: https://belfuse.com/media/datasheets/products/power-supplies/P78A-0500.pdf
footprint 3-SIP_CUI
pins: 1 VIN, 2 GND, 3 VOUT

## DCDC_CONVERTER_GAPTEC_5V_0A5
designator U?, comment LMO78_05-0.5
Non-Isolated PoL Module DC DC Converter 1 Output 5V 500mA, 300mA 6.5V, 7V - 36V, 31V Input; ComponentLink1Description: Digikey; ComponentLink1URL: https://www.digikey.ca/en/products/detail/gaptec-electronic/LMO78-05-0-5/13691759; ComponentLink2Description: Datasheet; ComponentLink2URL: https://gaptec-electronic.com/datenblaetter/LMO78_0.5.pdf
footprint 3-SIP_GAPTEC
pins: 1 VIN, 2 GND, 3 VOUT

## DCDC_CONVERTER_GAPTEC_5V_1A
designator U?, comment LMO78_05-1.0
Non-Isolated PoL Module DC DC Converter 1 Output 5V 1A, 500mA 8V - 36V, 27V Input; ComponentLink1Description: Digikey; ComponentLink1URL: https://www.digikey.com/en/products/detail/gaptec-electronic/LMO78-05-1-0/13692268; ComponentLink2Description: Datasheet; ComponentLink2URL: https://gaptec-electronic.com/datenblaetter/LMO78_1.0.pdf
footprint 3-SIP_GAPTEC
pins: 1 VIN, 2 GND, 3 VOUT

## DCDC_CONVERTER_LMZ10504TZ-ADJ/NOPB
designator U?, comment LMZ10504TZ-ADJ/NOPB
Non-Isolated PoL Module DC DC Converter 1 Output 0.8 ~ 5V 4A 2.95V - 5.5V Input; ComponentLink1Description: Digikey; ComponentLink1URL: https://www.digikey.ca/en/products/detail/texas-instruments/LMZ10504TZ-ADJ-NOPB/2179596; ComponentLink2Description: Datasheet; ComponentLink2URL: https://www.ti.com/general/docs/suppproductinfo.tsp?distId=10&gotoUrl=http%253A%252F%252Fwww.ti.com%252Flit%252Fgpn%252Flmz10504
pins: 1 VIN (power), 2 EN, 3 SS, 4 GND (power), 5 FB, 6 VOUT (power), 7 VOUT (power), 8 EP (power)

## DCDC_CONVERTER_MEANWELL_+/-15V_30W_DKA30B-15
designator U?, comment DKA30B-15
Isolated Module DC DC Converter 2 Output 15V -15V 1A, 1A 18V - 36V Input; ComponentLink1Description: Digikey; ComponentLink1URL: https://www.digikey.ca/en/products/detail/mean-well-usa-inc/DKA30B-15/7702763?s=N4IgTCBcDaICIGkCCBmADAIQLQEYCsIAugL5A; ComponentLink2Description: Datasheet; ComponentLink2URL: https://www.meanwellusa.com/upload/pdf/DKA30/DKA30-spec.pdf
footprint DKA30B-15 (Isolated Module DC DC Converter 2 Output 15V -15V 1A, 1A 18V - 36V Input)
pins: 1 R.C, 2 NC, 3 -VIN (power), 4 +VIN (power), 5 +VOUT (power), 6 COM (power), 7 -VOUT (power), 8 TRIM

## DCDC_CONVERTER_RECOM_5V_0A5
designator U?, comment R-78E5.0-0.5
Linear Regulator Replacement DC DC Converter 1 Output 5V 500mA 7V - 28V Input; ComponentLink1Description: Digikey; ComponentLink1URL: https://www.digikey.ca/en/products/detail/recom-power/R-78E5-0-0-5/2834904; ComponentLink2Description: Datasheet; ComponentLink2URL: https://recom-power.com/pdf/Innoline/R-78E-0.5.pdf
footprint 3-SIP_RECOM
pins: 1 VIN, 2 GND, 3 VOUT

## DCDC_CONVERTER_TDK_PXF40-24D15
designator U?, comment PXF40-24D15
Isolated Module DC DC Converter 2 Output 15V -15V 1.4A, 1.4A 18V - 36V Input; ComponentLink1Description: Digikey; ComponentLink1URL: https://www.digikey.com/en/products/detail/tdk-lambda/PXF40-24D15/1631727?s=N4IgTCBcDaIAoA0BiAWADAWjCgIgRgFYQBdAXyA; ComponentLink2Description: Datasheet; ComponentLink2URL: https://product.tdk.com/system/files/dam/doc/product/power/switching-power/dc-dc-converter/catalog/pxf_e.pdf
pins: 1 +VIN (power), 2 -VIN (power), 3 REMOTE ON/OFF, 4 NC, 5 +VOUT (power), 6 COM (power), 7 COM (power), 8 -VOUT (power), 9 TRIM

## DCDC_CONVERTER_TRACOPOWER_+/-15V_1A33_TEN40-2423WIR
designator U?, comment TEN40-2423WIR
Isolated Module DC DC Converter 2 Output 15V -15V 1.333A, 1.333A 9V - 36V Input; ComponentLink1Description: Digikey; ComponentLink1URL: https://www.digikey.ca/en/products/detail/traco-power/TEN-40-2423WIR/9383219; ComponentLink2Description: Datasheet; ComponentLink2URL: https://www.tracopower.com/products/ten40wir.pdf
footprint TEN40-2423WIR (Isolated Module DC DC Converter 2 Output 15V -15V 1.333A, 1.333A 9V - 36V Input)
pins: 1 +VIN (power), 2 -VIN (power), 3 REMOTE OF/OFF (power), 4 +VOUT (power), 5 COM (power), 6 -VOUT (power)

## DCDC_CONVERTER_XPPOWER_+/-15V_1A33_BCT40T24D15
designator U?, comment BCT40T24D15
Isolated Module DC DC Converter 2 Output 15V -15V 1.33A, 1.33A 9V - 36V Input; ComponentLink1Description: Digikey; ComponentLink1URL: https://www.digikey.ca/en/products/detail/xp-power/BCT40T24D15/27500972; ComponentLink2Description: Datasheet; ComponentLink2URL: https://mm.digikey.com/Volume0/opasdata/d220001/medias/docus/7179/BCT40T.pdf
footprint BCT40T24D15 (Isolated Module DC DC Converter 2 Output 15V -15V 1.33A, 1.33A 9V - 36V Input)
pins: 1 +VIN (power), 2 -VIN (power), 3 REMOTE (power), 4 -VOUT (power), 5 COM (power), 6 +VOUT (power)

## DDR_BUS_TERMINATION_REGULATOR_BD3539FVM-TR
designator U?, comment BD3539FVM-TR
- Converter, DDR Bus Termination Regulator Voltage Regulator IC 1 Output 8-MSOP; ComponentLink1Description: Digikey; ComponentLink1URL: https://www.digikey.com/en/products/detail/rohm-semiconductor/BD3539FVM-TR/4004068; ComponentLink2Description: Datasheet; ComponentLink2URL: https://fscdn.rohm.com/en/products/databook/datasheet/ic/power/linear_regulator/bd3539xxx-e.pdf
pins: 1 GND (power), 2 EN (power), 3 VTTS (power), 4 VREF (power), 5 VDDQ (power), 6 VCC (power), 7 VTT_IN (power), 8 VTT (power)